# Altium integrated library Lattice ORCA Series 4.IntLib: 36 symbols (part 5 of 9)
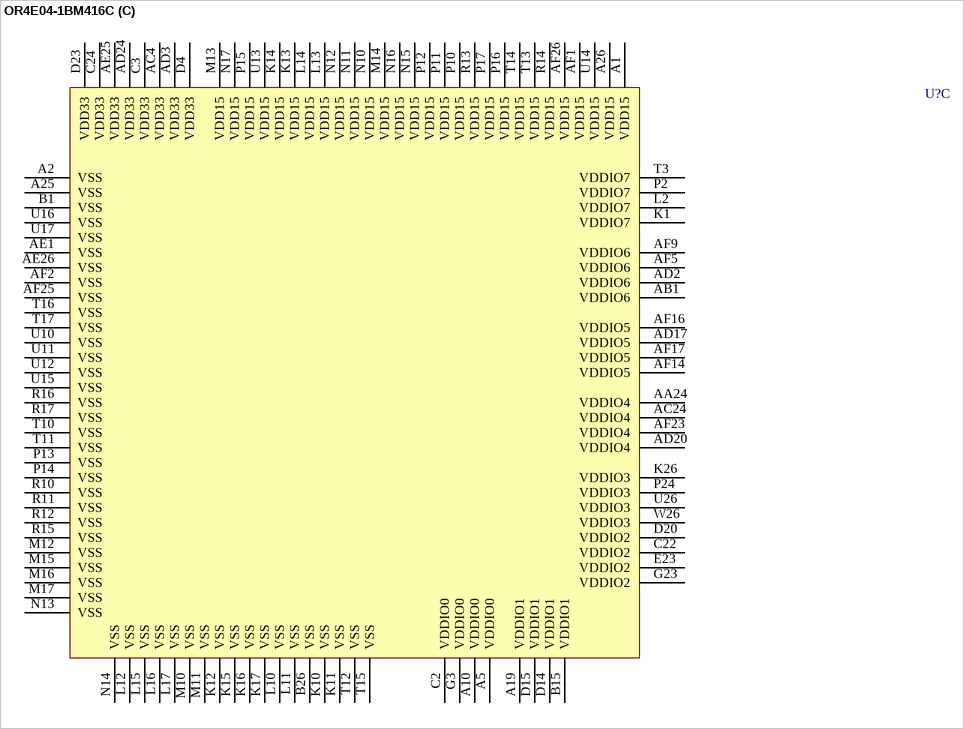
[diagram p122: symbol OR4E04-1BM416C]

## OR4E04-1BM416C
designator U?
ORCA Series 4 FPGA: 1.5 V, Commercial Grade, 466 I/Os.; Published: 21-May-2003; LatestRevisionDate: 13-Apr-2006; LatestRevisionNote: IPC-7351 Footprint Added.; DatasheetVersion: Aug-2003; PackageVersion: pkg_32, Aug-2005; PackageReference: fpBGA416; Publisher: Altium Limited; PackageDescription: 416-Ball Fine Pitch Ball Grid Array (fpBGA416); ComponentLink1Description: Manufacturer Link; ComponentLink1URL: http://www.latticesemi.com/products/fpga/orca/orca4/index.cfm; ComponentLink2Description: Datasheet; ComponentLink2URL: http://www.latticesemi.com/account/_download.cfm?AMID=3970; ComponentLink3Description: Lattice Login; ComponentLink3URL: http://www.latticesemi.com/account/login.cfm
footprint fpBGA416 (BGA, 416-Leads, Body 27x27mm, Pitch 1mm)
3D model OR4E04-fpBGA416 (416-Ball Fine Pitch Ball Grid Array (fpBGA416))
part A pins: AA1 PL32D/D8 (io), AA2 PL32C/VREF_6_01 (io), AA3 PL34C/VREF_6_02 (io), AA4 PL39D/PLL_CK7C/HPPLL (io), AB2 PL35B/D11 (io), AB3 PL36A/D13 (io), AB4 PL39C/PLL_CK7T/HPPLL (io), AC1 PL35A/D12 (io), AC2 PL36B/VREF_6_03 (io), AC5 PB2C/PLL_CK6T/PPLL (io), AC6 PB4C (io), AC7 PB6C/D15 (io), AC8 PB6D/D16 (io), AC9 PB11C/D23 (io), AC10 PB11D/D24 (io), AC11 PB15D/D30 (io), AC12 PB15C/D29 (io), AC13 PB20D (io), AC14 PB20C/VREF_5_02 (io), AC15 PB24C (io), AC16 PB24D (io), AC17 PB28D/VREF_5_06 (io), AC18 PB28C (io), AC19 PB33C (io), AC20 PB33D/VREF_4_02 (io), AC21 PB36C (io), AC22 PB37C/PLL_CK5T/PPLL (io), AC23 PB37D/PLL_CK5C/PPLL (io), AD1 PL37A/VREF_6_04 (io), AD4 PB2D/PLL_CK6C/PPLL (io), AD5 PB4D (io), AD6 PB6B (io), AD7 PB7C/D17 (io), AD8 PB8D/D19 (io), AD9 PB10D/D22 (io), AD10 PB13C/D26 (io), AD11 PB14D/D28 (io), AD12 PB17C (io), AD13 PB19C/PBCK0T (io), AD14 PB21D/VREF_5_03 (io), AD15 PB23C/PBCK1T (io), AD16 PB25C (io), AD18 PB30C (io), AD19 PB31D (io), AD21 PB35A (io), AD22 PB36D (io), AD23 PB37A (io), AE3 PB2A/DP2 (io), AE4 PB4A/VREF_6_05 (io), AE5 PB5D/D14 (io), AE6 PB7D/D18 (io), AE7 PB8C/VREF_6_07 (io), AE8 PB10C/VREF_6_08 (io), AE9 PB12D/D25 (io), AE10 PB13D/D27 (io), AE11 PB14C/VREF_6_10 (io), AE12 PB17D (io), AE13 PB19D/PBCK0C (io), AE14 PB21C (io), AE15 PB22D (io), AE16 PB23D/PBCK1C (io), AE17 PB25D/VREF_5_04 (io), AE18 PB26D/VREF_5_05 (io), AE19 PB30D (io), AE20 PB31C/VREF_4_01 (io), AE21 PB32D (io), AE22 PB34C (io), AE23 PB35C (io), AE24 PB37B/VREF_4_04 (io), AF3 PB4B/DP3 (io), AF4 PB5C/VREF_6_06 (io), AF6 PB9C/D20 (io), AF7 PB9D/D21 (io), AF8 PB12C/VREF_6_09 (io), AF10 PB16C/VREF_6_11 (io), AF11 PB16D/D31 (io), AF12 PB18C/VREF_5_01 (io), AF13 PB18D (io), AF15 PB22C (io), AF18 PB26C (io), AF19 PB27C (io), AF20 PB27D (io), AF21 PB32C (io), AF22 PB34A (io), AF24 PB35D/VREF_4_03 (io), D1 PL3C/VREF_0_07 (io), D2 PL2D/PLL_CK0C/HPPLL (io), E1 PL5D/HDC (io), E2 PL4D/D5 (io), E3 PL2C/PLL_CK0T/HPPLL (io), F1 PL7D/VREF_0_09 (io), F2 PL5C/~{LDC} (io), F3 PL4C/D6 (io), G1 PL9D (io), G2 PL7C/A17/PPC_A31 (io), G4 PL6D/TESTCFG (io), H1 PL9C (io), H2 PL8D/~{CS0} (io), H3 PL8C/CS1 (io), H4 PL6C/D7 (io), J1 PL12D/A15/PPC_A29 (io), J2 PL11C/A16/PPC_A30 (io), J3 PL11D/VREF_0_10 (io), J4 PL10D/~{INIT} (io), K2 PL12C/A14/PPC_A28 (io), K3 PL13D/VREF_7_01 (io), K4 PL10C/DOUT (io), L1 PL15D/A13/PPC_A27 (io), L3 PL13C/D4 (io), L4 PL14D/RDY/~{BUSY}/RCLK (io), M1 PL15C/A12/PPC_A26 (io), M2 PL16C (io), M3 PL16D (io), M4 PL14C/VREF_7_02 (io), N1 PL17D/A11/PPC_A25 (io), N2 PL17C/VREF_7_03 (io), N3 PL19D/~{RD/MPI_STRB} (io), N4 PL19C/VREF_7_04 (io), P1 PL21D/A10/PPC_A24 (io), P3 PL20C/PLCK0T (io), P4 PL20D/PLCK0C (io), R1 PL21C/A9/PPC_A23 (io), R2 PL22D/A8/PPC_A22 (io), R3 PL22C/VREF_7_05 (io), R4 PL25C/A7/PPC_A21 (io), T1 PL24D/PLCK1C (io), T2 PL24C/PLCK1T (io), T4 PL25D/VREF_7_06 (io), U1 PL26D/A6/PPC_A20 (io), U2 PL26C/A5/PPC_A19 (io), U3 PL27C/VREF_7_07 (io), U4 PL29C/A2/PPC_A16 (io), V1 PL26B (io), V2 PL27D/~{WR}/MPI_RW (io), V3 PL30D/A1/PPC_A15 (io), V4 PL29D/A3/PPC_A17 (io), W1 PL28D/A4/PPC_A18 (io), W2 PL30C/A0/PPC_A14 (io), W3 PL31C/DP1 (io), W4 PL33C/D10 (io), Y1 PL28C/VREF_7_08 (io), Y2 PL31D/DP0 (io), Y3 PL33D/D9 (io), Y4 PL34D (io)
part B pins: A3 PT3C/VREF_0_06 (io), A4 PT4D/TDI (io), A6 PT9C (io), A7 PT9D/VREF_0_03 (io), A8 PT11B/VREF_0_02 (io), A9 PT12C/M1 (io), A11 PT14C/VREF_1_06 (io), A12 PT16D/VREF_1_05 (io), A13 PT17C/PTCK0T (io), A14 PT19C/VREF_1_04 (io), A15 PT23C (io), A16 PT23D (io), A17 PT25D (io), A18 PT26D (io), A20 PT29C (io), A21 PT29D (io), A22 PT33D (io), A23 PT34D/VREF_2_06 (io), A24 PT36D/VREF_2_05 (io), AA23 PR37B (io), AA25 PR33C (io), AA26 PR33D/VREF_4_07 (io), AB23 PR37A/VREF_4_05 (io), AB24 PR36B (io), AB25 PR36C (io), AB26 PR35D (io), AC3 PTEMP, AC25 PR36A (io), AC26 PR35C/VREF_4_06 (io), AD25 PR38A/PLL_CK4T/PLL2 (io), AD26 PR38B/PLL_CK4C/PLL2 (io), AE2 LVDS_R (io), B2 CCLK (io), B3 PT3D (io), B4 ~{CFG_IRQ/MPI_IRQ} (out), B5 PT5C/D2 (io), B6 PT7C/A19/MPI_TSZ1 (io), B7 PT8C/TMS (io), B8 PT11A/~{MPI_TEA} (io), B9 PT12B/MPI_CLK (io), B10 PT12D/M0 (io), B11 PT14D (io), B12 PT16C (io), B13 PT17D/PTCK0C (io), B14 PT19D (io), B16 PT25C (io), B17 PT26C/VREF_1_02 (io), B18 PT27B (io), B19 PT28D (io), B20 PT31D (io), B21 PT33C/VREF_2_07 (io), B22 PT34C (io), B23 PT36C (io), B24 PLL_VF, B25 PR3D/PLL_CK3C/PLL1 (io), C1 ~{RESET} (in), C4 DONE (io), C5 PT4C/TCK (io), C6 PT5D/D1 (io), C7 PT7D/A20/~{MPI_BDIP} (io), C8 PT8D/D0 (io), C9 PT12A/A21/~{MPI_BURST} (io), C10 PT13A/VREF_0_01 (io), C11 PT13C/~{MPI_ACK} (io), C12 PT15D (io), C13 PT18C/PTCK1T (io), C14 PT21C (io), C15 PT21D (io), C16 PT24C/VREF_1_03 (io), C17 PT27A (io), C18 PT28C (io), C19 PT31C/VREF_2_08 (io), C20 PT32C (io), C21 PT35A (io), C23 PT37C/PLL_CK2T/PPLL (io), C25 PR4A (io), C26 PR3C/PLL_CK3T/PLL1 (io), D3 RD_DATA/TDO (out), D5 PT2D/PLL_CK1C/PPLL (io), D6 PT2C/PLL_CK1T/PPLL (io), D7 PT6D/A18/MPI_TSZ0 (io), D8 PT6C/D3 (io), D9 PT11C/M3 (io), D10 PT11D/M2 (io), D11 PT13D/~{MPI_RTRY} (io), D12 PT15C (io), D13 PT18D/PTCK1C (io), D16 PT24D (io), D17 PT27C (io), D18 PT27D/VREF_1_01 (io), D19 PT32D (io), D21 PT35B (io), D22 PT37D/PLL_CK2C/PPLL (io), D24 PR4B (io), D25 PR5B/VREF_2_03 (io), D26 PR5A (io), E4 ~{RD_CFG} (in), E24 PR4D (io), E25 PR6B (io), E26 PR9D (io), F4 ~{PRGM} (in), F23 PR4C (io), F24 PR6C (io), F25 PR6A/VREF_2_02 (io), F26 PR9C (io), G24 PR7B (io), G25 PR10C (io), G26 PR13D (io), H23 PR7A (io), H24 PR10D (io), H25 PR11D/VREF_2_01 (io), H26 PR13C (io), J23 PR12D (io), J24 PR11C (io), J25 PR14C/VREF_3_07 (io), J26 PR14B (io), K23 PR12C/VREF_3_08 (io), K24 PR14D (io), K25 PR14A (io), L23 PR15A (io), L24 PR15B (io), L25 PR16D (io), L26 PR16C (io), M23 PR17D/VREF_3_06 (io), M24 PR17C (io), M25 PR18D (io), M26 PR18C (io), N23 PR20C/PRCK0T (io), N24 PR19D (io), N25 PR19C/VREF_3_05 (io), N26 PR21D (io), P23 PR20D/PRCK0C (io), P25 PR22D/VREF_3_04 (io), P26 PR21C (io), R23 PR25A (io), R24 PR23C/PRCK1T (io), R25 PR23D/PRCK1C (io), R26 PR22C (io), T23 PR25B (io), T24 PR26B/VREF_3_02 (io), T25 PR25C (io), T26 PR25D/VREF_3_03 (io), U23 PR29D (io), U24 PR28D (io), U25 PR26A (io), V23 PR29C (io), V24 PR30D (io), V25 PR28C/VREF_3_01 (io), V26 PR27A (io), W23 PR34D (io), W24 PR32D (io), W25 PR30C (io), Y23 PR32C (io), Y24 PR34C (io), Y25 PR31C (io), Y26 PR31D/VREF_4_08 (io)
part C pins: A1 VDD15 (power), A2 VSS (power), A5 VDDIO0 (power), A10 VDDIO0 (power), A19 VDDIO1 (power), A25 VSS (power), A26 VDD15 (power), AA24 VDDIO4 (power), AB1 VDDIO6 (power), AC4 VDD33 (power), AC24 VDDIO4 (power), AD2 VDDIO6 (power), AD3 VDD33 (power), AD17 VDDIO5 (power), AD20 VDDIO4 (power), AD24 VDD33 (power), AE1 VSS (power), AE25 VDD33 (power), AE26 VSS (power), AF1 VDD15 (power), AF2 VSS (power), AF5 VDDIO6 (power), AF9 VDDIO6 (power), AF14 VDDIO5 (power), AF16 VDDIO5 (power), AF17 VDDIO5 (power), AF23 VDDIO4 (power), AF25 VSS (power), AF26 VDD15 (power), B1 VSS (power), B15 VDDIO1 (power), B26 VSS (power), C2 VDDIO0 (power), C3 VDD33 (power), C22 VDDIO2 (power), C24 VDD33 (power), D4 VDD33 (power), D14 VDDIO1 (power), D15 VDDIO1 (power), D20 VDDIO2 (power), D23 VDD33 (power), E23 VDDIO2 (power), G3 VDDIO0 (power), G23 VDDIO2 (power), K1 VDDIO7 (power), K10 VSS (power), K11 VSS (power), K12 VSS (power), K13 VDD15 (power), K14 VDD15 (power), K15 VSS (power), K16 VSS (power), K17 VSS (power), K26 VDDIO3 (power), L2 VDDIO7 (power), L10 VSS (power), L11 VSS (power), L12 VSS (power), L13 VDD15 (power), L14 VDD15 (power), L15 VSS (power), L16 VSS (power), L17 VSS (power), M10 VSS (power), M11 VSS (power), M12 VSS (power), M13 VDD15 (power), M14 VDD15 (power), M15 VSS (power), M16 VSS (power), M17 VSS (power), N10 VDD15 (power), N11 VDD15 (power), N12 VDD15 (power), N13 VSS (power), N14 VSS (power), N15 VDD15 (power), N16 VDD15 (power), N17 VDD15 (power), P2 VDDIO7 (power), P10 VDD15 (power), P11 VDD15 (power), P12 VDD15 (power), P13 VSS (power), P14 VSS (power), P15 VDD15 (power), P16 VDD15 (power), P17 VDD15 (power), P24 VDDIO3 (power), R10 VSS (power), R11 VSS (power), R12 VSS (power), R13 VDD15 (power), R14 VDD15 (power), R15 VSS (power), R16 VSS (power), R17 VSS (power), T3 VDDIO7 (power), T10 VSS (power), T11 VSS (power), T12 VSS (power), T13 VDD15 (power), T14 VDD15 (power), T15 VSS (power), T16 VSS (power), T17 VSS (power), U10 VSS (power), U11 VSS (power), U12 VSS (power), U13 VDD15 (power), U14 VDD15 (power), U15 VSS (power), U16 VSS (power), U17 VSS (power), U26 VDDIO3 (power), W26 VDDIO3 (power)

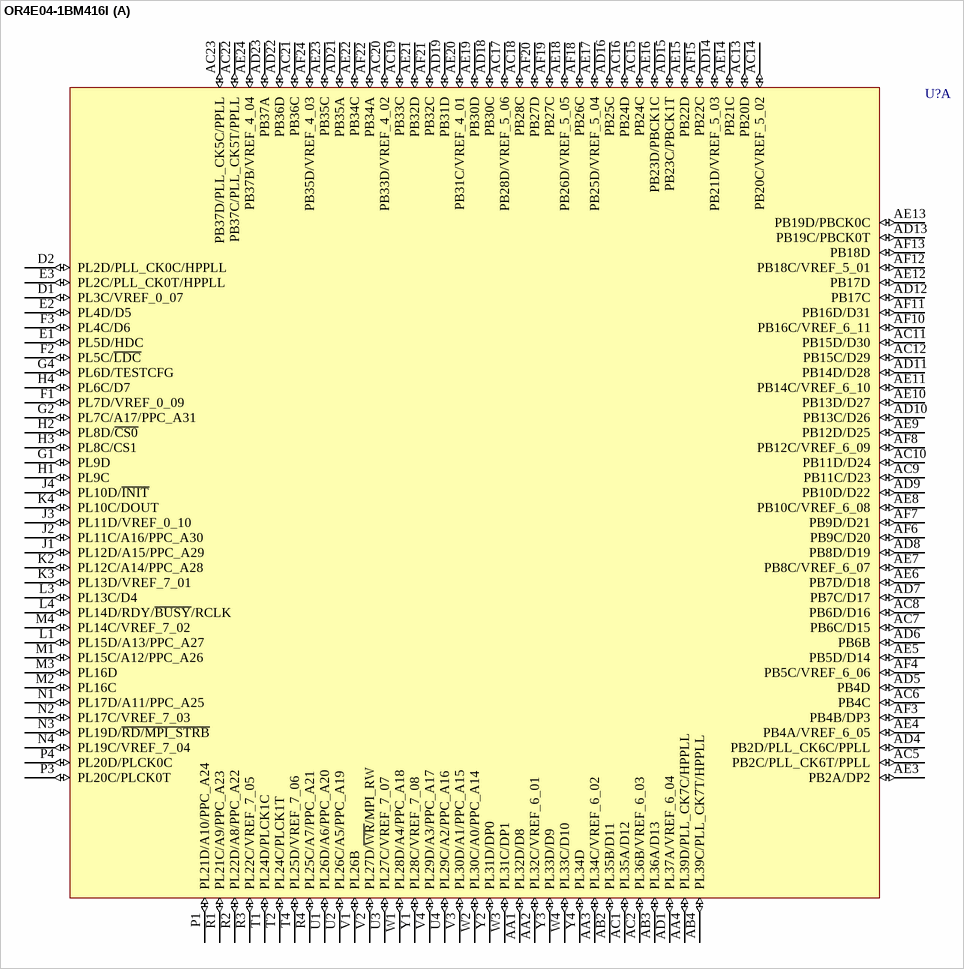
[diagram p54: symbol OR4E04-1BM416I]

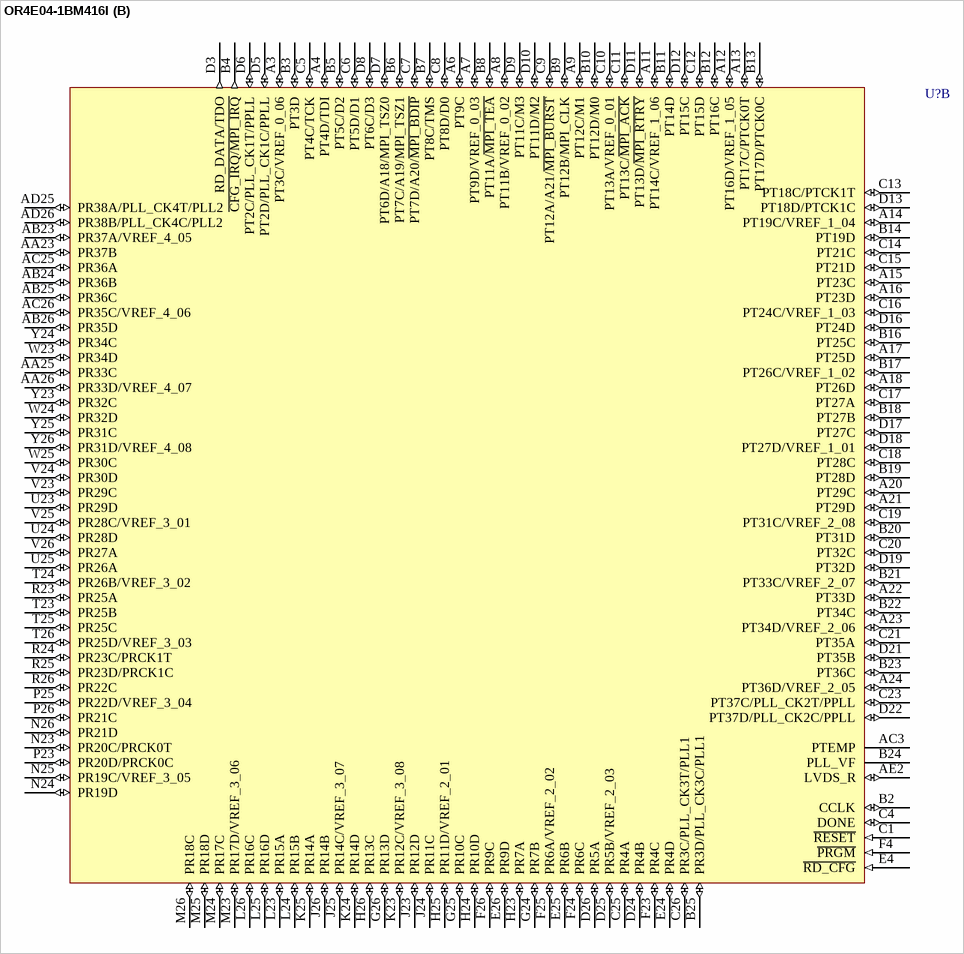
[diagram p55: symbol OR4E04-1BM416I]

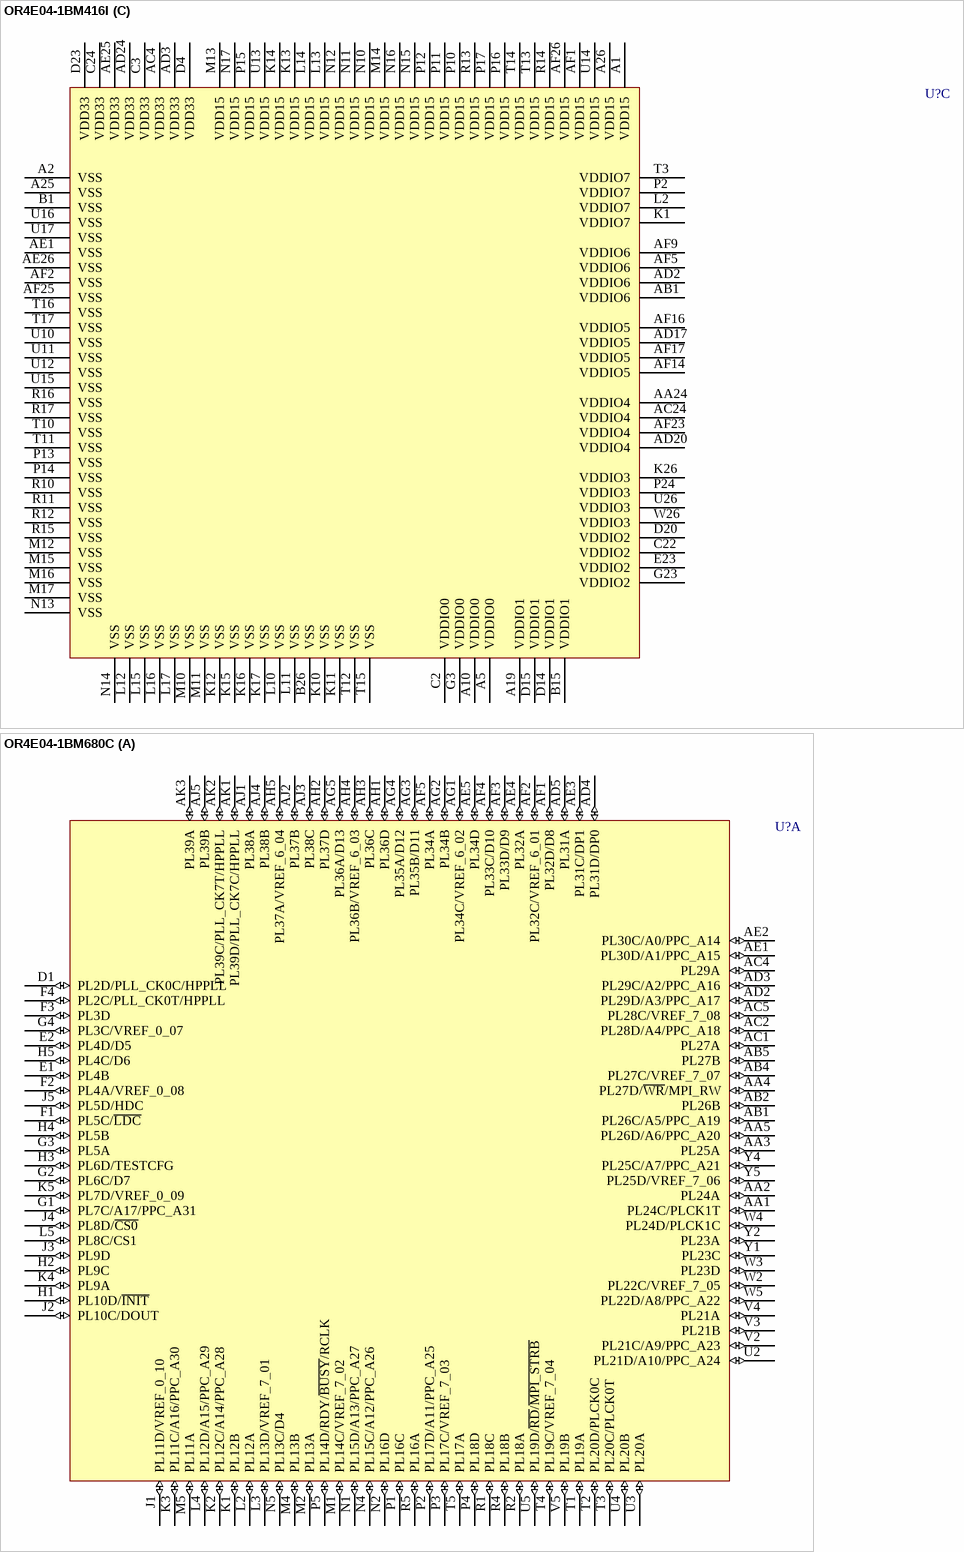
[diagram p56: symbols OR4E04-1BM416I to OR4E04-1BM680C]

## OR4E04-1BM416I
designator U?
ORCA Series 4 FPGA: 1.5 V, Industrial Grade, 466 I/Os.; Published: 21-May-2003; LatestRevisionDate: 13-Apr-2006; LatestRevisionNote: IPC-7351 Footprint Added.; DatasheetVersion: Aug-2003; PackageVersion: pkg_32, Aug-2005; PackageReference: fpBGA416; Publisher: Altium Limited; PackageDescription: 416-Ball Fine Pitch Ball Grid Array (fpBGA416); ComponentLink1Description: Manufacturer Link; ComponentLink1URL: http://www.latticesemi.com/products/fpga/orca/orca4/index.cfm; ComponentLink2Description: Datasheet; ComponentLink2URL: http://www.latticesemi.com/account/_download.cfm?AMID=3970; ComponentLink3Description: Lattice Login; ComponentLink3URL: http://www.latticesemi.com/account/login.cfm
footprint fpBGA416 (BGA, 416-Leads, Body 27x27mm, Pitch 1mm)
3D model OR4E04-fpBGA416 (416-Ball Fine Pitch Ball Grid Array (fpBGA416))
part A pins: AA1 PL32D/D8 (io), AA2 PL32C/VREF_6_01 (io), AA3 PL34C/VREF_6_02 (io), AA4 PL39D/PLL_CK7C/HPPLL (io), AB2 PL35B/D11 (io), AB3 PL36A/D13 (io), AB4 PL39C/PLL_CK7T/HPPLL (io), AC1 PL35A/D12 (io), AC2 PL36B/VREF_6_03 (io), AC5 PB2C/PLL_CK6T/PPLL (io), AC6 PB4C (io), AC7 PB6C/D15 (io), AC8 PB6D/D16 (io), AC9 PB11C/D23 (io), AC10 PB11D/D24 (io), AC11 PB15D/D30 (io), AC12 PB15C/D29 (io), AC13 PB20D (io), AC14 PB20C/VREF_5_02 (io), AC15 PB24C (io), AC16 PB24D (io), AC17 PB28D/VREF_5_06 (io), AC18 PB28C (io), AC19 PB33C (io), AC20 PB33D/VREF_4_02 (io), AC21 PB36C (io), AC22 PB37C/PLL_CK5T/PPLL (io), AC23 PB37D/PLL_CK5C/PPLL (io), AD1 PL37A/VREF_6_04 (io), AD4 PB2D/PLL_CK6C/PPLL (io), AD5 PB4D (io), AD6 PB6B (io), AD7 PB7C/D17 (io), AD8 PB8D/D19 (io), AD9 PB10D/D22 (io), AD10 PB13C/D26 (io), AD11 PB14D/D28 (io), AD12 PB17C (io), AD13 PB19C/PBCK0T (io), AD14 PB21D/VREF_5_03 (io), AD15 PB23C/PBCK1T (io), AD16 PB25C (io), AD18 PB30C (io), AD19 PB31D (io), AD21 PB35A (io), AD22 PB36D (io), AD23 PB37A (io), AE3 PB2A/DP2 (io), AE4 PB4A/VREF_6_05 (io), AE5 PB5D/D14 (io), AE6 PB7D/D18 (io), AE7 PB8C/VREF_6_07 (io), AE8 PB10C/VREF_6_08 (io), AE9 PB12D/D25 (io), AE10 PB13D/D27 (io), AE11 PB14C/VREF_6_10 (io), AE12 PB17D (io), AE13 PB19D/PBCK0C (io), AE14 PB21C (io), AE15 PB22D (io), AE16 PB23D/PBCK1C (io), AE17 PB25D/VREF_5_04 (io), AE18 PB26D/VREF_5_05 (io), AE19 PB30D (io), AE20 PB31C/VREF_4_01 (io), AE21 PB32D (io), AE22 PB34C (io), AE23 PB35C (io), AE24 PB37B/VREF_4_04 (io), AF3 PB4B/DP3 (io), AF4 PB5C/VREF_6_06 (io), AF6 PB9C/D20 (io), AF7 PB9D/D21 (io), AF8 PB12C/VREF_6_09 (io), AF10 PB16C/VREF_6_11 (io), AF11 PB16D/D31 (io), AF12 PB18C/VREF_5_01 (io), AF13 PB18D (io), AF15 PB22C (io), AF18 PB26C (io), AF19 PB27C (io), AF20 PB27D (io), AF21 PB32C (io), AF22 PB34A (io), AF24 PB35D/VREF_4_03 (io), D1 PL3C/VREF_0_07 (io), D2 PL2D/PLL_CK0C/HPPLL (io), E1 PL5D/HDC (io), E2 PL4D/D5 (io), E3 PL2C/PLL_CK0T/HPPLL (io), F1 PL7D/VREF_0_09 (io), F2 PL5C/~{LDC} (io), F3 PL4C/D6 (io), G1 PL9D (io), G2 PL7C/A17/PPC_A31 (io), G4 PL6D/TESTCFG (io), H1 PL9C (io), H2 PL8D/~{CS0} (io), H3 PL8C/CS1 (io), H4 PL6C/D7 (io), J1 PL12D/A15/PPC_A29 (io), J2 PL11C/A16/PPC_A30 (io), J3 PL11D/VREF_0_10 (io), J4 PL10D/~{INIT} (io), K2 PL12C/A14/PPC_A28 (io), K3 PL13D/VREF_7_01 (io), K4 PL10C/DOUT (io), L1 PL15D/A13/PPC_A27 (io), L3 PL13C/D4 (io), L4 PL14D/RDY/~{BUSY}/RCLK (io), M1 PL15C/A12/PPC_A26 (io), M2 PL16C (io), M3 PL16D (io), M4 PL14C/VREF_7_02 (io), N1 PL17D/A11/PPC_A25 (io), N2 PL17C/VREF_7_03 (io), N3 PL19D/~{RD/MPI_STRB} (io), N4 PL19C/VREF_7_04 (io), P1 PL21D/A10/PPC_A24 (io), P3 PL20C/PLCK0T (io), P4 PL20D/PLCK0C (io), R1 PL21C/A9/PPC_A23 (io), R2 PL22D/A8/PPC_A22 (io), R3 PL22C/VREF_7_05 (io), R4 PL25C/A7/PPC_A21 (io), T1 PL24D/PLCK1C (io), T2 PL24C/PLCK1T (io), T4 PL25D/VREF_7_06 (io), U1 PL26D/A6/PPC_A20 (io), U2 PL26C/A5/PPC_A19 (io), U3 PL27C/VREF_7_07 (io), U4 PL29C/A2/PPC_A16 (io), V1 PL26B (io), V2 PL27D/~{WR}/MPI_RW (io), V3 PL30D/A1/PPC_A15 (io), V4 PL29D/A3/PPC_A17 (io), W1 PL28D/A4/PPC_A18 (io), W2 PL30C/A0/PPC_A14 (io), W3 PL31C/DP1 (io), W4 PL33C/D10 (io), Y1 PL28C/VREF_7_08 (io), Y2 PL31D/DP0 (io), Y3 PL33D/D9 (io), Y4 PL34D (io)
part B pins: A3 PT3C/VREF_0_06 (io), A4 PT4D/TDI (io), A6 PT9C (io), A7 PT9D/VREF_0_03 (io), A8 PT11B/VREF_0_02 (io), A9 PT12C/M1 (io), A11 PT14C/VREF_1_06 (io), A12 PT16D/VREF_1_05 (io), A13 PT17C/PTCK0T (io), A14 PT19C/VREF_1_04 (io), A15 PT23C (io), A16 PT23D (io), A17 PT25D (io), A18 PT26D (io), A20 PT29C (io), A21 PT29D (io), A22 PT33D (io), A23 PT34D/VREF_2_06 (io), A24 PT36D/VREF_2_05 (io), AA23 PR37B (io), AA25 PR33C (io), AA26 PR33D/VREF_4_07 (io), AB23 PR37A/VREF_4_05 (io), AB24 PR36B (io), AB25 PR36C (io), AB26 PR35D (io), AC3 PTEMP, AC25 PR36A (io), AC26 PR35C/VREF_4_06 (io), AD25 PR38A/PLL_CK4T/PLL2 (io), AD26 PR38B/PLL_CK4C/PLL2 (io), AE2 LVDS_R (io), B2 CCLK (io), B3 PT3D (io), B4 ~{CFG_IRQ/MPI_IRQ} (out), B5 PT5C/D2 (io), B6 PT7C/A19/MPI_TSZ1 (io), B7 PT8C/TMS (io), B8 PT11A/~{MPI_TEA} (io), B9 PT12B/MPI_CLK (io), B10 PT12D/M0 (io), B11 PT14D (io), B12 PT16C (io), B13 PT17D/PTCK0C (io), B14 PT19D (io), B16 PT25C (io), B17 PT26C/VREF_1_02 (io), B18 PT27B (io), B19 PT28D (io), B20 PT31D (io), B21 PT33C/VREF_2_07 (io), B22 PT34C (io), B23 PT36C (io), B24 PLL_VF, B25 PR3D/PLL_CK3C/PLL1 (io), C1 ~{RESET} (in), C4 DONE (io), C5 PT4C/TCK (io), C6 PT5D/D1 (io), C7 PT7D/A20/~{MPI_BDIP} (io), C8 PT8D/D0 (io), C9 PT12A/A21/~{MPI_BURST} (io), C10 PT13A/VREF_0_01 (io), C11 PT13C/~{MPI_ACK} (io), C12 PT15D (io), C13 PT18C/PTCK1T (io), C14 PT21C (io), C15 PT21D (io), C16 PT24C/VREF_1_03 (io), C17 PT27A (io), C18 PT28C (io), C19 PT31C/VREF_2_08 (io), C20 PT32C (io), C21 PT35A (io), C23 PT37C/PLL_CK2T/PPLL (io), C25 PR4A (io), C26 PR3C/PLL_CK3T/PLL1 (io), D3 RD_DATA/TDO (out), D5 PT2D/PLL_CK1C/PPLL (io), D6 PT2C/PLL_CK1T/PPLL (io), D7 PT6D/A18/MPI_TSZ0 (io), D8 PT6C/D3 (io), D9 PT11C/M3 (io), D10 PT11D/M2 (io), D11 PT13D/~{MPI_RTRY} (io), D12 PT15C (io), D13 PT18D/PTCK1C (io), D16 PT24D (io), D17 PT27C (io), D18 PT27D/VREF_1_01 (io), D19 PT32D (io), D21 PT35B (io), D22 PT37D/PLL_CK2C/PPLL (io), D24 PR4B (io), D25 PR5B/VREF_2_03 (io), D26 PR5A (io), E4 ~{RD_CFG} (in), E24 PR4D (io), E25 PR6B (io), E26 PR9D (io), F4 ~{PRGM} (in), F23 PR4C (io), F24 PR6C (io), F25 PR6A/VREF_2_02 (io), F26 PR9C (io), G24 PR7B (io), G25 PR10C (io), G26 PR13D (io), H23 PR7A (io), H24 PR10D (io), H25 PR11D/VREF_2_01 (io), H26 PR13C (io), J23 PR12D (io), J24 PR11C (io), J25 PR14C/VREF_3_07 (io), J26 PR14B (io), K23 PR12C/VREF_3_08 (io), K24 PR14D (io), K25 PR14A (io), L23 PR15A (io), L24 PR15B (io), L25 PR16D (io), L26 PR16C (io), M23 PR17D/VREF_3_06 (io), M24 PR17C (io), M25 PR18D (io), M26 PR18C (io), N23 PR20C/PRCK0T (io), N24 PR19D (io), N25 PR19C/VREF_3_05 (io), N26 PR21D (io), P23 PR20D/PRCK0C (io), P25 PR22D/VREF_3_04 (io), P26 PR21C (io), R23 PR25A (io), R24 PR23C/PRCK1T (io), R25 PR23D/PRCK1C (io), R26 PR22C (io), T23 PR25B (io), T24 PR26B/VREF_3_02 (io), T25 PR25C (io), T26 PR25D/VREF_3_03 (io), U23 PR29D (io), U24 PR28D (io), U25 PR26A (io), V23 PR29C (io), V24 PR30D (io), V25 PR28C/VREF_3_01 (io), V26 PR27A (io), W23 PR34D (io), W24 PR32D (io), W25 PR30C (io), Y23 PR32C (io), Y24 PR34C (io), Y25 PR31C (io), Y26 PR31D/VREF_4_08 (io)
part C pins: A1 VDD15 (power), A2 VSS (power), A5 VDDIO0 (power), A10 VDDIO0 (power), A19 VDDIO1 (power), A25 VSS (power), A26 VDD15 (power), AA24 VDDIO4 (power), AB1 VDDIO6 (power), AC4 VDD33 (power), AC24 VDDIO4 (power), AD2 VDDIO6 (power), AD3 VDD33 (power), AD17 VDDIO5 (power), AD20 VDDIO4 (power), AD24 VDD33 (power), AE1 VSS (power), AE25 VDD33 (power), AE26 VSS (power), AF1 VDD15 (power), AF2 VSS (power), AF5 VDDIO6 (power), AF9 VDDIO6 (power), AF14 VDDIO5 (power), AF16 VDDIO5 (power), AF17 VDDIO5 (power), AF23 VDDIO4 (power), AF25 VSS (power), AF26 VDD15 (power), B1 VSS (power), B15 VDDIO1 (power), B26 VSS (power), C2 VDDIO0 (power), C3 VDD33 (power), C22 VDDIO2 (power), C24 VDD33 (power), D4 VDD33 (power), D14 VDDIO1 (power), D15 VDDIO1 (power), D20 VDDIO2 (power), D23 VDD33 (power), E23 VDDIO2 (power), G3 VDDIO0 (power), G23 VDDIO2 (power), K1 VDDIO7 (power), K10 VSS (power), K11 VSS (power), K12 VSS (power), K13 VDD15 (power), K14 VDD15 (power), K15 VSS (power), K16 VSS (power), K17 VSS (power), K26 VDDIO3 (power), L2 VDDIO7 (power), L10 VSS (power), L11 VSS (power), L12 VSS (power), L13 VDD15 (power), L14 VDD15 (power), L15 VSS (power), L16 VSS (power), L17 VSS (power), M10 VSS (power), M11 VSS (power), M12 VSS (power), M13 VDD15 (power), M14 VDD15 (power), M15 VSS (power), M16 VSS (power), M17 VSS (power), N10 VDD15 (power), N11 VDD15 (power), N12 VDD15 (power), N13 VSS (power), N14 VSS (power), N15 VDD15 (power), N16 VDD15 (power), N17 VDD15 (power), P2 VDDIO7 (power), P10 VDD15 (power), P11 VDD15 (power), P12 VDD15 (power), P13 VSS (power), P14 VSS (power), P15 VDD15 (power), P16 VDD15 (power), P17 VDD15 (power), P24 VDDIO3 (power), R10 VSS (power), R11 VSS (power), R12 VSS (power), R13 VDD15 (power), R14 VDD15 (power), R15 VSS (power), R16 VSS (power), R17 VSS (power), T3 VDDIO7 (power), T10 VSS (power), T11 VSS (power), T12 VSS (power), T13 VDD15 (power), T14 VDD15 (power), T15 VSS (power), T16 VSS (power), T17 VSS (power), U10 VSS (power), U11 VSS (power), U12 VSS (power), U13 VDD15 (power), U14 VDD15 (power), U15 VSS (power), U16 VSS (power), U17 VSS (power), U26 VDDIO3 (power), W26 VDDIO3 (power)

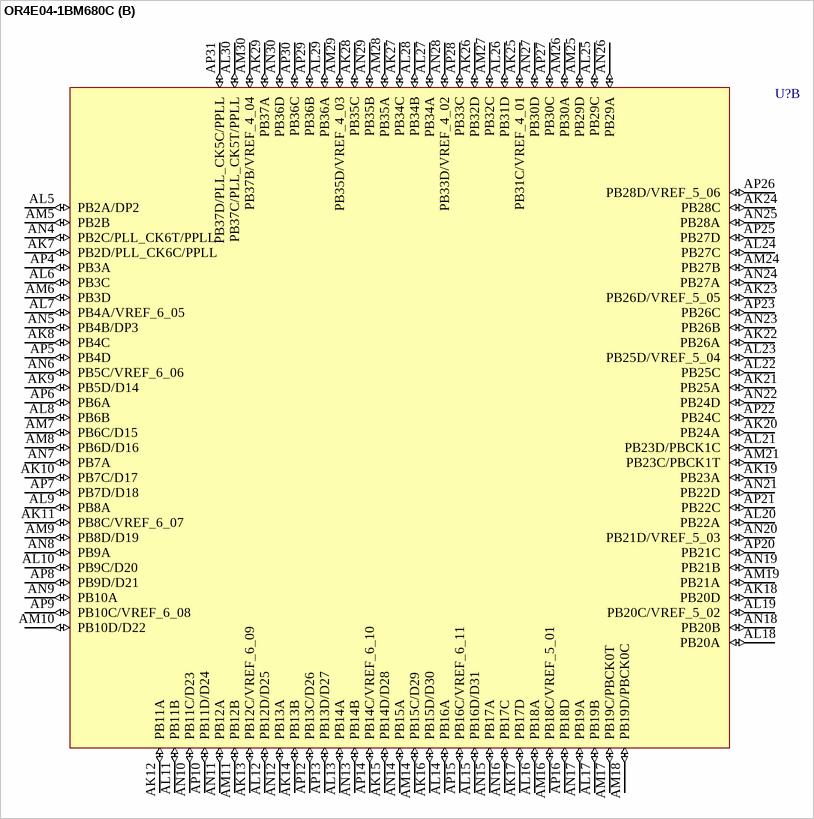
[diagram p57: symbol OR4E04-1BM680C]

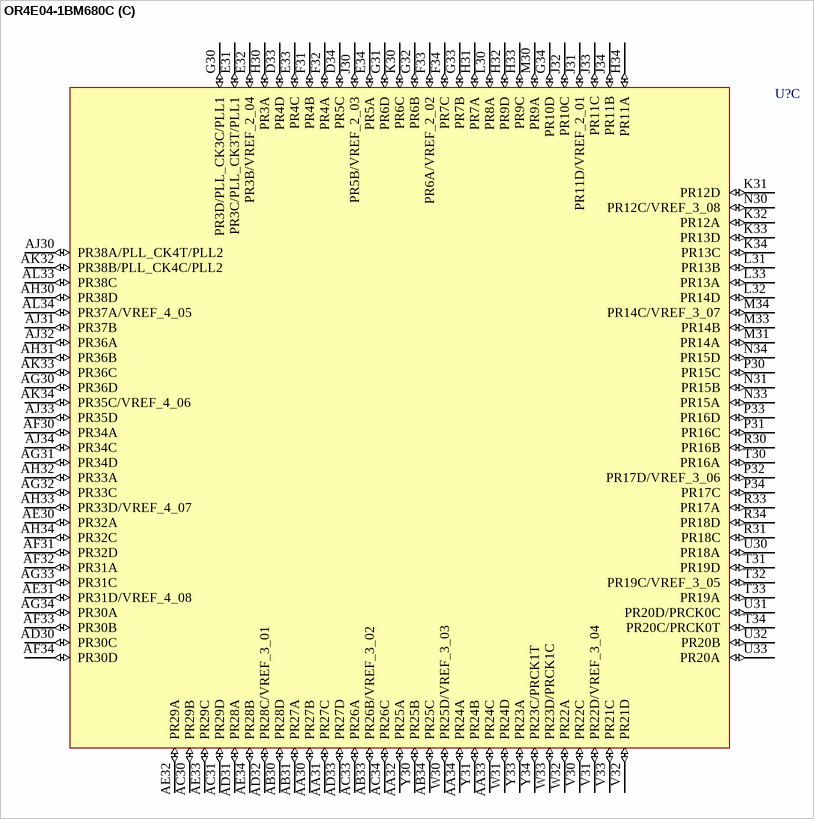
[diagram p58: symbol OR4E04-1BM680C]

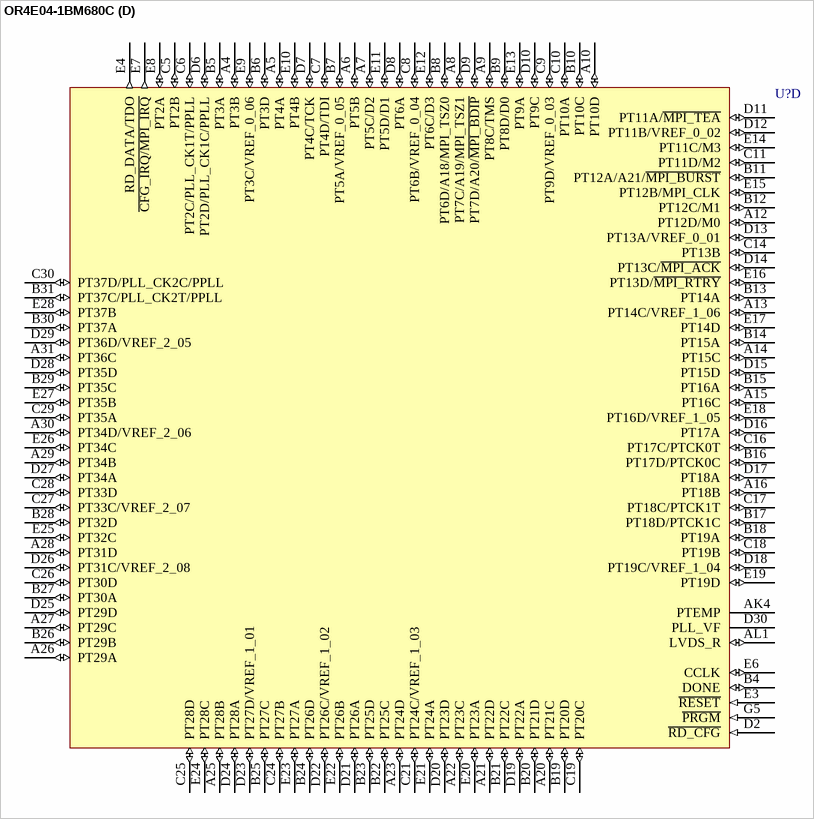
[diagram p59: symbol OR4E04-1BM680C]

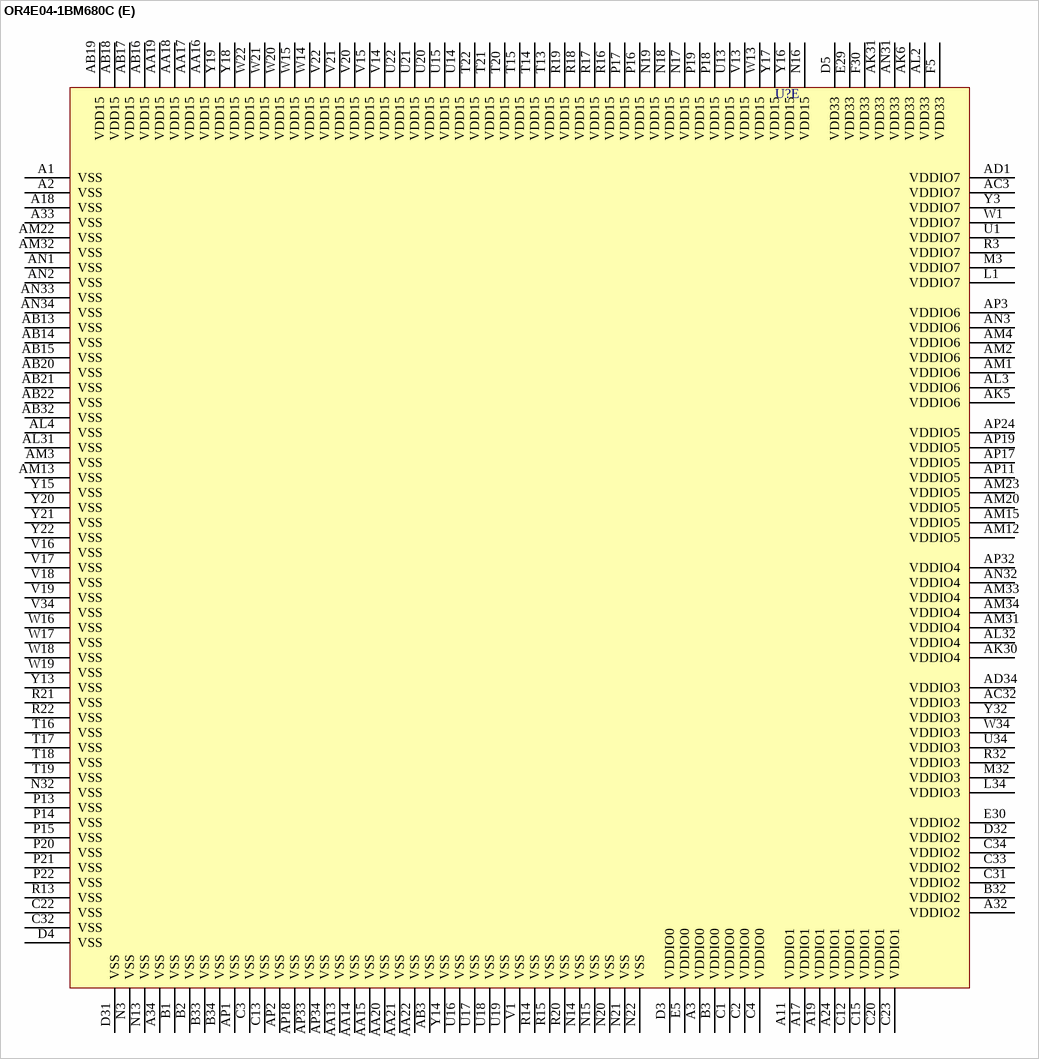
[diagram p60: symbol OR4E04-1BM680C]

## OR4E04-1BM680C
designator U?
ORCA Series 4 FPGA: 1.5 V, Commercial Grade, 466 I/Os.; Published: 21-May-2003; LatestRevisionDate: 13-Apr-2006; LatestRevisionNote: IPC-7351 Footprint Added.; DatasheetVersion: Aug-2003; PackageVersion: pkg_32, Aug-2005; PackageReference: fpBGA680; Publisher: Altium Limited; PackageDescription: 680-Ball Fine Pitch Ball Grid Array (fpBGA680); ComponentLink1Description: Manufacturer Link; ComponentLink1URL: http://www.latticesemi.com/products/fpga/orca/orca4/index.cfm; ComponentLink2Description: Datasheet; ComponentLink2URL: http://www.latticesemi.com/account/_download.cfm?AMID=3970; ComponentLink3Description: Lattice Login; ComponentLink3URL: http://www.latticesemi.com/account/login.cfm
footprint fpBGA680 (BGA, 680-Leads, Body 35x35mm, Pitch 1mm)
3D model OR4E04-fpBGA680 (680-Ball Fine Pitch Ball Grid Array (fpBGA680))
part A pins: AA1 PL24C/PLCK1T (io), AA2 PL24A (io), AA3 PL25A (io), AA4 PL27D/~{WR}/MPI_RW (io), AA5 PL26D/A6/PPC_A20 (io), AB1 PL26C/A5/PPC_A19 (io), AB2 PL26B (io), AB4 PL27C/VREF_7_07 (io), AB5 PL27B (io), AC1 PL27A (io), AC2 PL28D/A4/PPC_A18 (io), AC4 PL29A (io), AC5 PL28C/VREF_7_08 (io), AD2 PL29D/A3/PPC_A17 (io), AD3 PL29C/A2/PPC_A16 (io), AD4 PL31D/DP0 (io), AD5 PL31A (io), AE1 PL30D/A1/PPC_A15 (io), AE2 PL30C/A0/PPC_A14 (io), AE3 PL31C/DP1 (io), AE4 PL32A (io), AE5 PL34D (io), AF1 PL32D/D8 (io), AF2 PL32C/VREF_6_01 (io), AF3 PL33D/D9 (io), AF4 PL33C/D10 (io), AF5 PL34A (io), AG1 PL34C/VREF_6_02 (io), AG2 PL34B (io), AG3 PL35B/D11 (io), AG4 PL35A/D12 (io), AG5 PL36A/D13 (io), AH1 PL36D (io), AH2 PL37D (io), AH3 PL36C (io), AH4 PL36B/VREF_6_03 (io), AH5 PL37A/VREF_6_04 (io), AJ1 PL38A (io), AJ2 PL37B (io), AJ3 PL38C (io), AJ4 PL38B (io), AJ5 PL39B (io), AK1 PL39D/PLL_CK7C/HPPLL (io), AK2 PL39C/PLL_CK7T/HPPLL (io), AK3 PL39A (io), D1 PL2D/PLL_CK0C/HPPLL (io), E1 PL4B (io), E2 PL4D/D5 (io), F1 PL5C/~{LDC} (io), F2 PL4A/VREF_0_08 (io), F3 PL3D (io), F4 PL2C/PLL_CK0T/HPPLL (io), G1 PL7C/A17/PPC_A31 (io), G2 PL6C/D7 (io), G3 PL5A (io), G4 PL3C/VREF_0_07 (io), H1 PL10D/~{INIT} (io), H2 PL9C (io), H3 PL6D/TESTCFG (io), H4 PL5B (io), H5 PL4C/D6 (io), J1 PL11D/VREF_0_10 (io), J2 PL10C/DOUT (io), J3 PL9D (io), J4 PL8D/~{CS0} (io), J5 PL5D/HDC (io), K1 PL12B (io), K2 PL12C/A14/PPC_A28 (io), K3 PL11C/A16/PPC_A30 (io), K4 PL9A (io), K5 PL7D/VREF_0_09 (io), L2 PL12A (io), L3 PL13D/VREF_7_01 (io), L4 PL12D/A15/PPC_A29 (io), L5 PL8C/CS1 (io), M1 PL14C/VREF_7_02 (io), M2 PL13A (io), M4 PL13B (io), M5 PL11A (io), N1 PL15D/A13/PPC_A27 (io), N2 PL16D (io), N4 PL15C/A12/PPC_A26 (io), N5 PL13C/D4 (io), P1 PL16C (io), P2 PL17D/A11/PPC_A25 (io), P3 PL17C/VREF_7_03 (io), P4 PL18D (io), P5 PL14D/RDY/~{BUSY}/RCLK (io), R1 PL18C (io), R2 PL18A (io), R4 PL18B (io), R5 PL16A (io), T1 PL19A (io), T2 PL20D/PLCK0C (io), T3 PL20C/PLCK0T (io), T4 PL19C/VREF_7_04 (io), T5 PL17A (io), U2 PL21D/A10/PPC_A24 (io), U3 PL20A (io), U4 PL20B (io), U5 PL19D/~{RD}/~{MPI_STRB} (io), V2 PL21C/A9/PPC_A23 (io), V3 PL21B (io), V4 PL21A (io), V5 PL19B (io), W2 PL22C/VREF_7_05 (io), W3 PL23D (io), W4 PL24D/PLCK1C (io), W5 PL22D/A8/PPC_A22 (io), Y1 PL23C (io), Y2 PL23A (io), Y4 PL25C/A7/PPC_A21 (io), Y5 PL25D/VREF_7_06 (io)
part B pins: AK7 PB2D/PLL_CK6C/PPLL (io), AK8 PB4C (io), AK9 PB5D/D14 (io), AK10 PB7C/D17 (io), AK11 PB8C/VREF_6_07 (io), AK12 PB11A (io), AK13 PB12C/VREF_6_09 (io), AK14 PB13B (io), AK15 PB14D/D28 (io), AK16 PB15D/D30 (io), AK17 PB17D (io), AK18 PB20D (io), AK19 PB23A (io), AK20 PB24A (io), AK21 PB25A (io), AK22 PB26A (io), AK23 PB26D/VREF_5_05 (io), AK24 PB28C (io), AK25 PB31C/VREF_4_01 (io), AK26 PB32D (io), AK27 PB34C (io), AK28 PB35C (io), AK29 PB37A (io), AL5 PB2A/DP2 (io), AL6 PB3C (io), AL7 PB4A/VREF_6_05 (io), AL8 PB6B (io), AL9 PB8A (io), AL10 PB9C/D20 (io), AL11 PB11B (io), AL12 PB12D/D25 (io), AL13 PB14A (io), AL14 PB16A (io), AL15 PB16D/D31 (io), AL16 PB18A (io), AL17 PB19B (io), AL18 PB20A (io), AL19 PB20C/VREF_5_02 (io), AL20 PB22A (io), AL21 PB23D/PBCK1C (io), AL22 PB25C (io), AL23 PB25D/VREF_5_04 (io), AL24 PB27C (io), AL25 PB29C (io), AL26 PB31D (io), AL27 PB34A (io), AL28 PB34B (io), AL29 PB36A (io), AL30 PB37C/PLL_CK5T/PPLL (io), AM5 PB2B (io), AM6 PB3D (io), AM7 PB6C/D15 (io), AM8 PB6D/D16 (io), AM9 PB8D/D19 (io), AM10 PB10D/D22 (io), AM11 PB12B (io), AM14 PB15C/D29 (io), AM16 PB18C/VREF_5_01 (io), AM17 PB19C/PBCK0T (io), AM18 PB19D/PBCK0C (io), AM19 PB21A (io), AM21 PB23C/PBCK1T (io), AM24 PB27B (io), AM25 PB29D (io), AM26 PB30A (io), AM27 PB32C (io), AM28 PB35A (io), AM29 PB35D/VREF_4_03 (io), AM30 PB37B/VREF_4_04 (io), AN4 PB2C/PLL_CK6T/PPLL (io), AN5 PB4B/DP3 (io), AN6 PB5C/VREF_6_06 (io), AN7 PB7A (io), AN8 PB9A (io), AN9 PB10A (io), AN10 PB11C/D23 (io), AN11 PB12A (io), AN12 PB13A (io), AN13 PB14B (io), AN14 PB15A (io), AN15 PB17A (io), AN16 PB17C (io), AN17 PB19A (io), AN18 PB20B (io), AN19 PB21B (io), AN20 PB21D/VREF_5_03 (io), AN21 PB22D (io), AN22 PB24D (io), AN23 PB26B (io), AN24 PB27A (io), AN25 PB28A (io), AN26 PB29A (io), AN27 PB30D (io), AN28 PB33D/VREF_4_02 (io), AN29 PB35B (io), AN30 PB36D (io), AP4 PB3A (io), AP5 PB4D (io), AP6 PB6A (io), AP7 PB7D/D18 (io), AP8 PB9D/D21 (io), AP9 PB10C/VREF_6_08 (io), AP10 PB11D/D24 (io), AP12 PB13C/D26 (io), AP13 PB13D/D27 (io), AP14 PB14C/VREF_6_10 (io), AP15 PB16C/VREF_6_11 (io), AP16 PB18D (io), AP20 PB21C (io), AP21 PB22C (io), AP22 PB24C (io), AP23 PB26C (io), AP25 PB27D (io), AP26 PB28D/VREF_5_06 (io), AP27 PB30C (io), AP28 PB33C (io), AP29 PB36B (io), AP30 PB36C (io), AP31 PB37D/PLL_CK5C/PPLL (io)
part C pins: AA30 PR27B (io), AA31 PR27C (io), AA32 PR25A (io), AA33 PR24C (io), AA34 PR24A (io), AB30 PR28D (io), AB31 PR27A (io), AB33 PR26B/VREF_3_02 (io), AB34 PR25C (io), AC30 PR29B (io), AC31 PR29D (io), AC33 PR26A (io), AC34 PR26C (io), AD30 PR30C (io), AD31 PR28A (io), AD32 PR28C/VREF_3_01 (io), AD33 PR27D (io), AE30 PR32A (io), AE31 PR31D/VREF_4_08 (io), AE32 PR29A (io), AE33 PR29C (io), AE34 PR28B (io), AF30 PR34A (io), AF31 PR32D (io), AF32 PR31A (io), AF33 PR30B (io), AF34 PR30D (io), AG30 PR36D (io), AG31 PR34D (io), AG32 PR33C (io), AG33 PR31C (io), AG34 PR30A (io), AH30 PR38D (io), AH31 PR36B (io), AH32 PR33A (io), AH33 PR33D/VREF_4_07 (io), AH34 PR32C (io), AJ30 PR38A/PLL_CK4T/PLL2 (io), AJ31 PR37B (io), AJ32 PR36A (io), AJ33 PR35D (io), AJ34 PR34C (io), AK32 PR38B/PLL_CK4C/PLL2 (io), AK33 PR36C (io), AK34 PR35C/VREF_4_06 (io), AL33 PR38C (io), AL34 PR37A/VREF_4_05 (io), D33 PR4D (io), D34 PR5C (io), E31 PR3C/PLL_CK3T/PLL1 (io), E32 PR3B/VREF_2_04 (io), E33 PR4C (io), E34 PR5A (io), F31 PR4B (io), F32 PR4A (io), F33 PR6A/VREF_2_02 (io), F34 PR7C (io), G30 PR3D/PLL_CK3C/PLL1 (io), G31 PR6D (io), G32 PR6B (io), G33 PR7B (io), G34 PR10D (io), H30 PR3A (io), H31 PR7A (io), H32 PR9D (io), H33 PR9C (io), H34 PR11A (io), J30 PR5B/VREF_2_03 (io), J31 PR11D/VREF_2_01 (io), J32 PR10C (io), J33 PR11C (io), J34 PR11B (io), K30 PR6C (io), K31 PR12D (io), K32 PR12A (io), K33 PR13D (io), K34 PR13C (io), L30 PR8A (io), L31 PR13B (io), L32 PR14D (io), L33 PR13A (io), M30 PR9A (io), M31 PR14A (io), M33 PR14B (io), M34 PR14C/VREF_3_07 (io), N30 PR12C/VREF_3_08 (io), N31 PR15B (io), N33 PR15A (io), N34 PR15D (io), P30 PR15C (io), P31 PR16C (io), P32 PR17D/VREF_3_06 (io), P33 PR16D (io), P34 PR17C (io), R30 PR16B (io), R31 PR18C (io), R33 PR17A (io), R34 PR18D (io), T30 PR16A (io), T31 PR19D (io), T32 PR19C/VREF_3_05 (io), T33 PR19A (io), T34 PR20C/PRCK0T (io), U30 PR18A (io), U31 PR20D/PRCK0C (io), U32 PR20B (io), U33 PR20A (io), V30 PR22C (io), V31 PR22D/VREF_3_04 (io), V32 PR21D (io), V33 PR21C (io), W30 PR25D/VREF_3_03 (io), W31 PR24D (io), W32 PR22A (io), W33 PR23D/PRCK1C (io), Y30 PR25B (io), Y31 PR24B (io), Y33 PR23A (io), Y34 PR23C/PRCK1T (io)
part D pins: A4 PT3B (io), A5 PT4A (io), A6 PT5B (io), A7 PT5C/D2 (io), A8 PT7C/A19/MPI_TSZ1 (io), A9 PT8C/TMS (io), A10 PT10D (io), A12 PT12D/M0 (io), A13 PT14C/VREF_1_06 (io), A14 PT15C (io), A15 PT16C (io), A16 PT18B (io), A20 PT21C (io), A21 PT22D (io), A22 PT23C (io), A23 PT24D (io), A25 PT28B (io), A26 PT29A (io), A27 PT29C (io), A28 PT31D (io), A29 PT34B (io), A30 PT34D/VREF_2_06 (io), A31 PT36C (io), AK4 PTEMP, AL1 LVDS_R (io), B4 DONE (io), B5 PT3A (io), B6 PT3D (io), B7 PT5A/VREF_0_05 (io), B8 PT6D/A18/MPI_TSZ0 (io), B9 PT8D/D0 (io), B10 PT10C (io), B11 PT12A/A21/~{MPI_BURST} (io), B12 PT12C/M1 (io), B13 PT14A (io), B14 PT15A (io), B15 PT16A (io), B16 PT17D/PTCK0C (io), B17 PT18D/PTCK1C (io), B18 PT19A (io), B19 PT20D (io), B20 PT21D (io), B21 PT22C (io), B22 PT25C (io), B23 PT25D (io), B24 PT26D (io), B25 PT27C (io), B26 PT29B (io), B27 PT30A (io), B28 PT32D (io), B29 PT35C (io), B30 PT37A (io), B31 PT37C/PLL_CK2T/PPLL (io), C5 PT2B (io), C6 PT2C/PLL_CK1T/PPLL (io), C7 PT4D/TDI (io), C8 PT6B/VREF_0_04 (io), C9 PT9D/VREF_0_03 (io), C10 PT10A (io), C11 PT11D/M2 (io), C14 PT13B (io), C16 PT17C/PTCK0T (io), C17 PT18C/PTCK1T (io), C18 PT19B (io), C19 PT20C (io), C21 PT24C/VREF_1_03 (io), C24 PT27B (io), C25 PT28D (io), C26 PT30D (io), C27 PT33C/VREF_2_07 (io), C28 PT33D (io), C29 PT35A (io), C30 PT37D/PLL_CK2C/PPLL (io), D2 ~{RD_CFG} (in), D6 PT2D/PLL_CK1C/PPLL (io), D7 PT4C/TCK (io), D8 PT6A (io), D9 PT7D/A20/~{MPI_BDIP} (io), D10 PT9C (io), D11 PT11A/~{MPI_TEA} (io), D12 PT11B/VREF_0_02 (io), D13 PT13A/VREF_0_01 (io), D14 PT13C/~{MPI_ACK} (io), D15 PT15D (io), D16 PT17A (io), D17 PT18A (io), D18 PT19C/VREF_1_04 (io), D19 PT22A (io), D20 PT23D (io), D21 PT26A (io), D22 PT26C/VREF_1_02 (io), D23 PT27D/VREF_1_01 (io), D24 PT28A (io), D25 PT29D (io), D26 PT31C/VREF_2_08 (io), D27 PT34A (io), D28 PT35D (io), D29 PT36D/VREF_2_05 (io), D30 PLL_VF, E3 ~{RESET} (in), E4 RD_DATA/TDO (out), E6 CCLK (io), E7 ~{CFG_IRQ/MPI_IRQ} (out), E8 PT2A (io), E9 PT3C/VREF_0_06 (io), E10 PT4B (io), E11 PT5D/D1 (io), E12 PT6C/D3 (io), E13 PT9A (io), E14 PT11C/M3 (io), E15 PT12B/MPI_CLK (io), E16 PT13D/~{MPI_RTRY} (io), E17 PT14D (io), E18 PT16D/VREF_1_05 (io), E19 PT19D (io), E20 PT23A (io), E21 PT24A (io), E22 PT26B (io), E23 PT27A (io), E24 PT28C (io), E25 PT32C (io), E26 PT34C (io), E27 PT35B (io), E28 PT37B (io), G5 ~{PRGM} (in)
part E pins: A1 VSS (power), A2 VSS (power), A3 VDDIO0 (power), A11 VDDIO1 (power), A17 VDDIO1 (power), A18 VSS (power), A19 VDDIO1 (power), A24 VDDIO1 (power), A32 VDDIO2 (power), A33 VSS (power), A34 VSS (power), AA13 VSS (power), AA14 VSS (power), AA15 VSS (power), AA16 VDD15 (power), AA17 VDD15 (power), AA18 VDD15 (power), AA19 VDD15 (power), AA20 VSS (power), AA21 VSS (power), AA22 VSS (power), AB3 VSS (power), AB13 VSS (power), AB14 VSS (power), AB15 VSS (power), AB16 VDD15 (power), AB17 VDD15 (power), AB18 VDD15 (power), AB19 VDD15 (power), AB20 VSS (power), AB21 VSS (power), AB22 VSS (power), AB32 VSS (power), AC3 VDDIO7 (power), AC32 VDDIO3 (power), AD1 VDDIO7 (power), AD34 VDDIO3 (power), AK5 VDDIO6 (power), AK6 VDD33 (power), AK30 VDDIO4 (power), AK31 VDD33 (power), AL2 VDD33 (power), AL3 VDDIO6 (power), AL4 VSS (power), AL31 VSS (power), AL32 VDDIO4 (power), AM1 VDDIO6 (power), AM2 VDDIO6 (power), AM3 VSS (power), AM4 VDDIO6 (power), AM12 VDDIO5 (power), AM13 VSS (power), AM15 VDDIO5 (power), AM20 VDDIO5 (power), AM22 VSS (power), AM23 VDDIO5 (power), AM31 VDDIO4 (power), AM32 VSS (power), AM33 VDDIO4 (power), AM34 VDDIO4 (power), AN1 VSS (power), AN2 VSS (power), AN3 VDDIO6 (power), AN31 VDD33 (power), AN32 VDDIO4 (power), AN33 VSS (power), AN34 VSS (power), AP1 VSS (power), AP2 VSS (power), AP3 VDDIO6 (power), AP11 VDDIO5 (power), AP17 VDDIO5 (power), AP18 VSS (power), AP19 VDDIO5 (power), AP24 VDDIO5 (power), AP32 VDDIO4 (power), AP33 VSS (power), AP34 VSS (power), B1 VSS (power), B2 VSS (power), B3 VDDIO0 (power), B32 VDDIO2 (power), B33 VSS (power), B34 VSS (power), C1 VDDIO0 (power), C2 VDDIO0 (power), C3 VSS (power), C4 VDDIO0 (power), C12 VDDIO1 (power), C13 VSS (power), C15 VDDIO1 (power), C20 VDDIO1 (power), C22 VSS (power), C23 VDDIO1 (power), C31 VDDIO2 (power), C32 VSS (power), C33 VDDIO2 (power), C34 VDDIO2 (power), D3 VDDIO0 (power), D4 VSS (power), D5 VDD33 (power), D31 VSS (power), D32 VDDIO2 (power), E5 VDDIO0 (power), E29 VDD33 (power), E30 VDDIO2 (power), F5 VDD33 (power), F30 VDD33 (power), L1 VDDIO7 (power), L34 VDDIO3 (power), M3 VDDIO7 (power), M32 VDDIO3 (power), N3 VSS (power), N13 VSS (power), N14 VSS (power), N15 VSS (power), N16 VDD15 (power), N17 VDD15 (power), N18 VDD15 (power), N19 VDD15 (power), N20 VSS (power), N21 VSS (power), N22 VSS (power), N32 VSS (power), P13 VSS (power), P14 VSS (power), P15 VSS (power), P16 VDD15 (power), P17 VDD15 (power), P18 VDD15 (power), P19 VDD15 (power), P20 VSS (power), P21 VSS (power), P22 VSS (power), R3 VDDIO7 (power), R13 VSS (power), R14 VSS (power), R15 VSS (power), R16 VDD15 (power), R17 VDD15 (power), R18 VDD15 (power), R19 VDD15 (power), R20 VSS (power), R21 VSS (power), R22 VSS (power), R32 VDDIO3 (power), T13 VDD15 (power), T14 VDD15 (power), T15 VDD15 (power), T16 VSS (power), T17 VSS (power), T18 VSS (power), T19 VSS (power), T20 VDD15 (power), T21 VDD15 (power), T22 VDD15 (power), U1 VDDIO7 (power), U13 VDD15 (power), U14 VDD15 (power), U15 VDD15 (power), U16 VSS (power), U17 VSS (power), U18 VSS (power), U19 VSS (power), U20 VDD15 (power), U21 VDD15 (power), U22 VDD15 (power), U34 VDDIO3 (power), V1 VSS (power), V13 VDD15 (power), V14 VDD15 (power), V15 VDD15 (power), V16 VSS (power), V17 VSS (power), V18 VSS (power), V19 VSS (power), V20 VDD15 (power), V21 VDD15 (power), V22 VDD15 (power), V34 VSS (power), W1 VDDIO7 (power), W13 VDD15 (power), W14 VDD15 (power), W15 VDD15 (power), W16 VSS (power), W17 VSS (power), W18 VSS (power), W19 VSS (power), W20 VDD15 (power), W21 VDD15 (power), W22 VDD15 (power), W34 VDDIO3 (power), Y3 VDDIO7 (power), Y13 VSS (power), Y14 VSS (power), Y15 VSS (power), Y16 VDD15 (power), Y17 VDD15 (power), Y18 VDD15 (power), Y19 VDD15 (power), Y20 VSS (power), Y21 VSS (power), Y22 VSS (power), Y32 VDDIO3 (power)

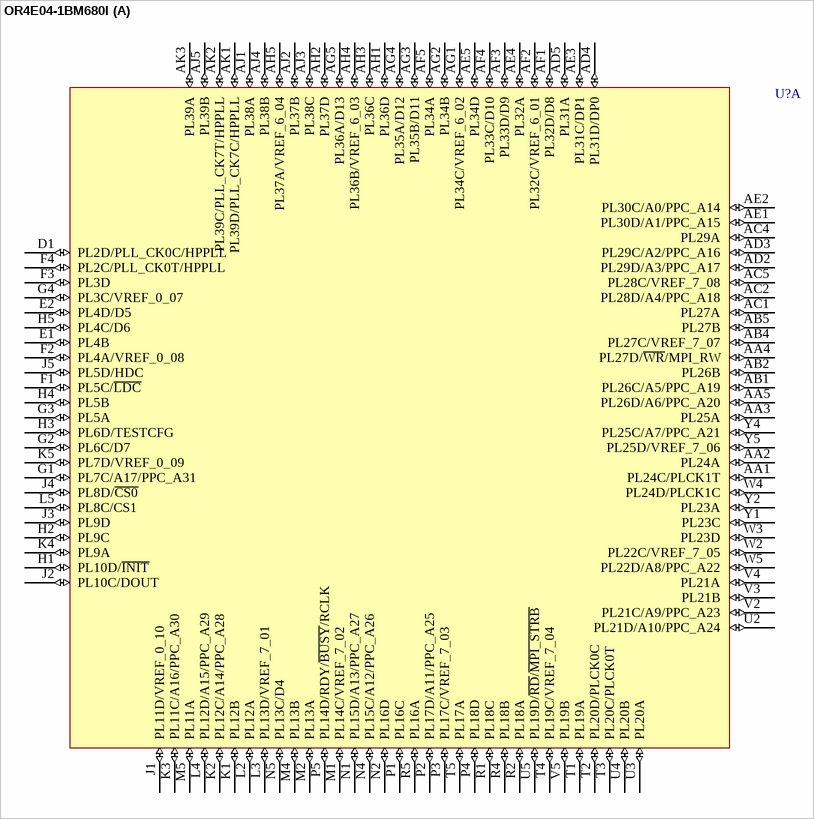
[diagram p61: symbol OR4E04-1BM680I]

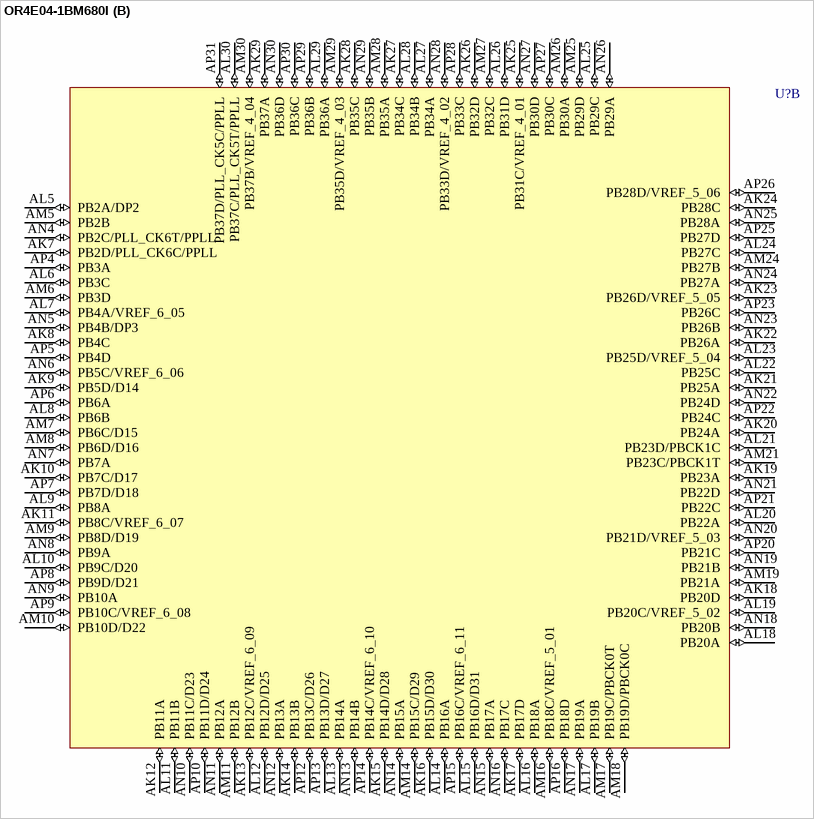
[diagram p62: symbol OR4E04-1BM680I]

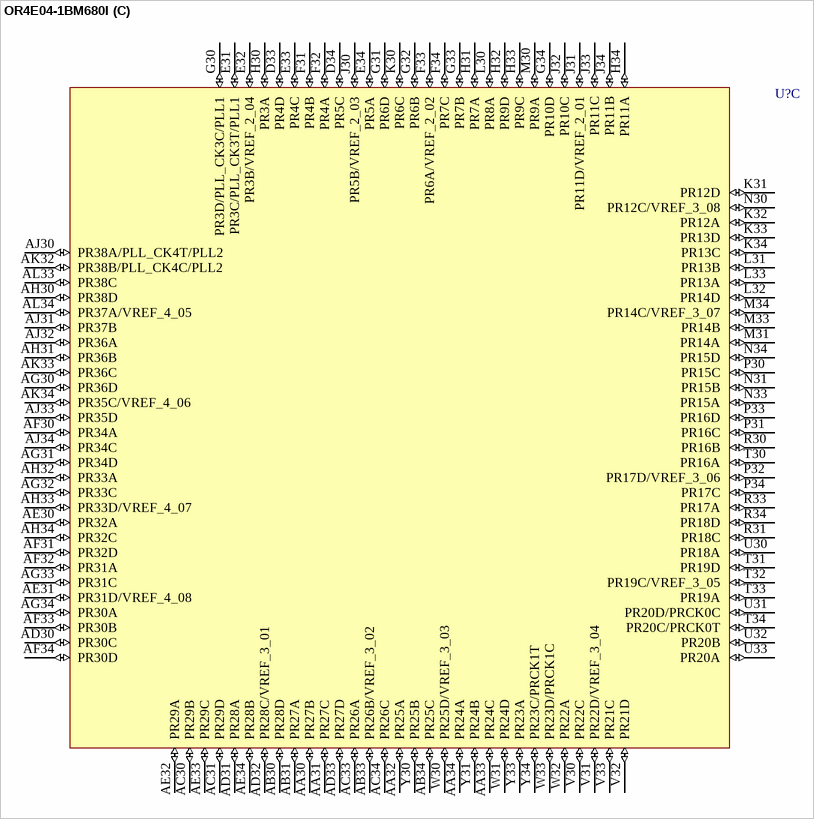
[diagram p63: symbol OR4E04-1BM680I]

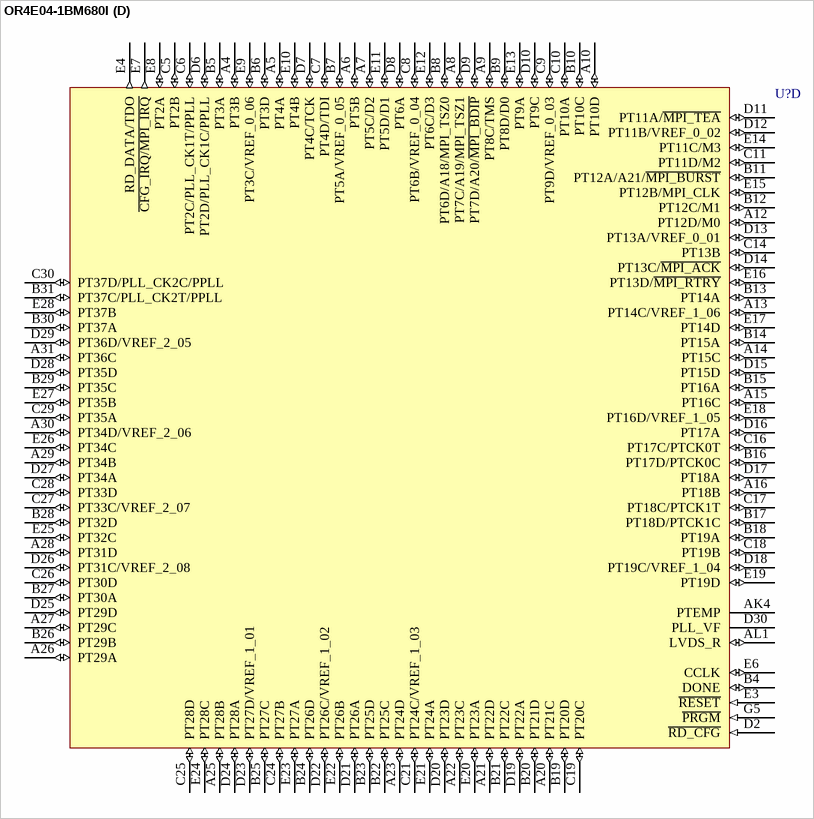
[diagram p64: symbol OR4E04-1BM680I]

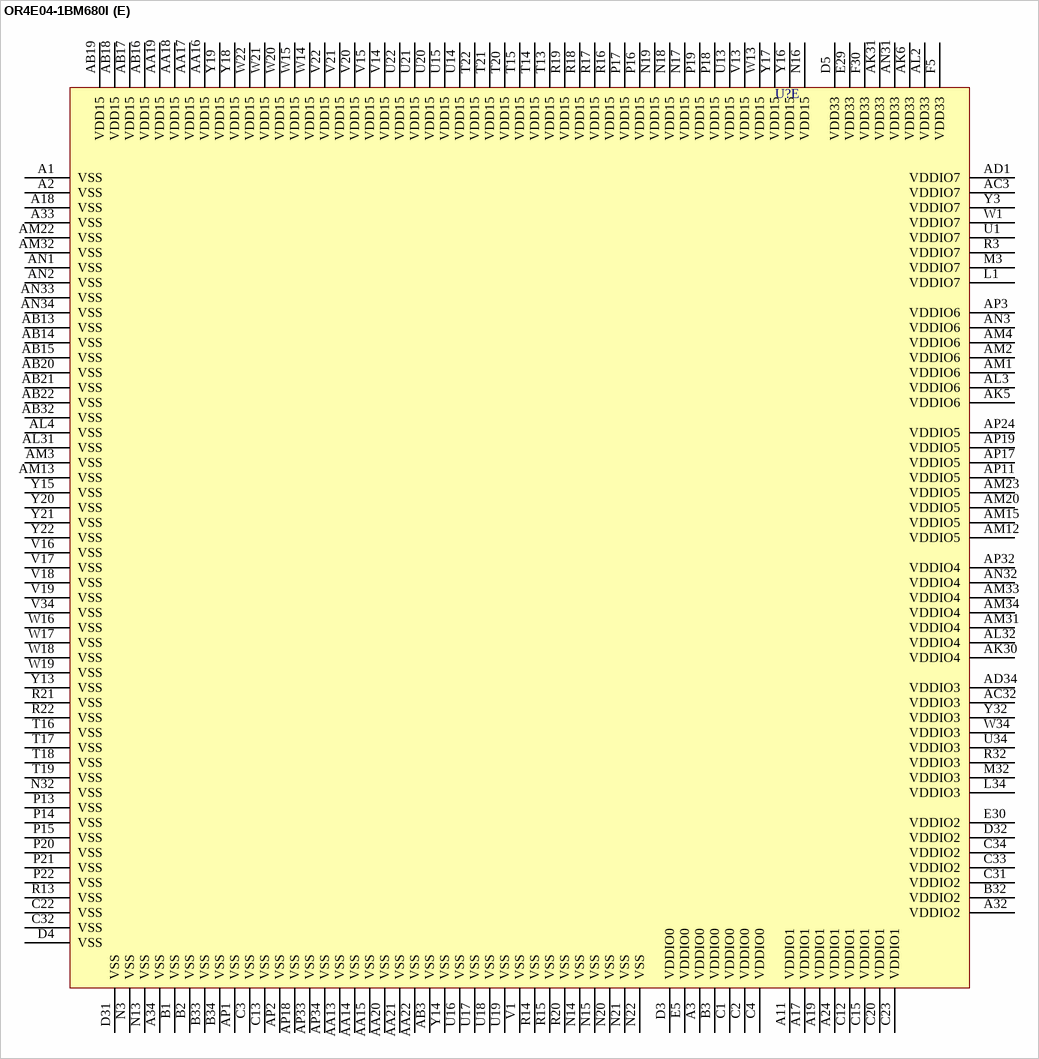
[diagram p65: symbol OR4E04-1BM680I]

## OR4E04-1BM680I
designator U?
ORCA Series 4 FPGA: 1.5 V, Industrial Grade, 466 I/Os.; Published: 21-May-2003; LatestRevisionDate: 13-Apr-2006; LatestRevisionNote: IPC-7351 Footprint Added.; DatasheetVersion: Aug-2003; PackageVersion: pkg_32, Aug-2005; PackageReference: fpBGA680; Publisher: Altium Limited; PackageDescription: 680-Ball Fine Pitch Ball Grid Array (fpBGA680); ComponentLink1Description: Manufacturer Link; ComponentLink1URL: http://www.latticesemi.com/products/fpga/orca/orca4/index.cfm; ComponentLink2Description: Datasheet; ComponentLink2URL: http://www.latticesemi.com/account/_download.cfm?AMID=3970; ComponentLink3Description: Lattice Login; ComponentLink3URL: http://www.latticesemi.com/account/login.cfm
footprint fpBGA680 (BGA, 680-Leads, Body 35x35mm, Pitch 1mm)
3D model OR4E04-fpBGA680 (680-Ball Fine Pitch Ball Grid Array (fpBGA680))
part A pins: AA1 PL24C/PLCK1T (io), AA2 PL24A (io), AA3 PL25A (io), AA4 PL27D/~{WR}/MPI_RW (io), AA5 PL26D/A6/PPC_A20 (io), AB1 PL26C/A5/PPC_A19 (io), AB2 PL26B (io), AB4 PL27C/VREF_7_07 (io), AB5 PL27B (io), AC1 PL27A (io), AC2 PL28D/A4/PPC_A18 (io), AC4 PL29A (io), AC5 PL28C/VREF_7_08 (io), AD2 PL29D/A3/PPC_A17 (io), AD3 PL29C/A2/PPC_A16 (io), AD4 PL31D/DP0 (io), AD5 PL31A (io), AE1 PL30D/A1/PPC_A15 (io), AE2 PL30C/A0/PPC_A14 (io), AE3 PL31C/DP1 (io), AE4 PL32A (io), AE5 PL34D (io), AF1 PL32D/D8 (io), AF2 PL32C/VREF_6_01 (io), AF3 PL33D/D9 (io), AF4 PL33C/D10 (io), AF5 PL34A (io), AG1 PL34C/VREF_6_02 (io), AG2 PL34B (io), AG3 PL35B/D11 (io), AG4 PL35A/D12 (io), AG5 PL36A/D13 (io), AH1 PL36D (io), AH2 PL37D (io), AH3 PL36C (io), AH4 PL36B/VREF_6_03 (io), AH5 PL37A/VREF_6_04 (io), AJ1 PL38A (io), AJ2 PL37B (io), AJ3 PL38C (io), AJ4 PL38B (io), AJ5 PL39B (io), AK1 PL39D/PLL_CK7C/HPPLL (io), AK2 PL39C/PLL_CK7T/HPPLL (io), AK3 PL39A (io), D1 PL2D/PLL_CK0C/HPPLL (io), E1 PL4B (io), E2 PL4D/D5 (io), F1 PL5C/~{LDC} (io), F2 PL4A/VREF_0_08 (io), F3 PL3D (io), F4 PL2C/PLL_CK0T/HPPLL (io), G1 PL7C/A17/PPC_A31 (io), G2 PL6C/D7 (io), G3 PL5A (io), G4 PL3C/VREF_0_07 (io), H1 PL10D/~{INIT} (io), H2 PL9C (io), H3 PL6D/TESTCFG (io), H4 PL5B (io), H5 PL4C/D6 (io), J1 PL11D/VREF_0_10 (io), J2 PL10C/DOUT (io), J3 PL9D (io), J4 PL8D/~{CS0} (io), J5 PL5D/HDC (io), K1 PL12B (io), K2 PL12C/A14/PPC_A28 (io), K3 PL11C/A16/PPC_A30 (io), K4 PL9A (io), K5 PL7D/VREF_0_09 (io), L2 PL12A (io), L3 PL13D/VREF_7_01 (io), L4 PL12D/A15/PPC_A29 (io), L5 PL8C/CS1 (io), M1 PL14C/VREF_7_02 (io), M2 PL13A (io), M4 PL13B (io), M5 PL11A (io), N1 PL15D/A13/PPC_A27 (io), N2 PL16D (io), N4 PL15C/A12/PPC_A26 (io), N5 PL13C/D4 (io), P1 PL16C (io), P2 PL17D/A11/PPC_A25 (io), P3 PL17C/VREF_7_03 (io), P4 PL18D (io), P5 PL14D/RDY/~{BUSY}/RCLK (io), R1 PL18C (io), R2 PL18A (io), R4 PL18B (io), R5 PL16A (io), T1 PL19A (io), T2 PL20D/PLCK0C (io), T3 PL20C/PLCK0T (io), T4 PL19C/VREF_7_04 (io), T5 PL17A (io), U2 PL21D/A10/PPC_A24 (io), U3 PL20A (io), U4 PL20B (io), U5 PL19D/~{RD}/~{MPI_STRB} (io), V2 PL21C/A9/PPC_A23 (io), V3 PL21B (io), V4 PL21A (io), V5 PL19B (io), W2 PL22C/VREF_7_05 (io), W3 PL23D (io), W4 PL24D/PLCK1C (io), W5 PL22D/A8/PPC_A22 (io), Y1 PL23C (io), Y2 PL23A (io), Y4 PL25C/A7/PPC_A21 (io), Y5 PL25D/VREF_7_06 (io)
part B pins: AK7 PB2D/PLL_CK6C/PPLL (io), AK8 PB4C (io), AK9 PB5D/D14 (io), AK10 PB7C/D17 (io), AK11 PB8C/VREF_6_07 (io), AK12 PB11A (io), AK13 PB12C/VREF_6_09 (io), AK14 PB13B (io), AK15 PB14D/D28 (io), AK16 PB15D/D30 (io), AK17 PB17D (io), AK18 PB20D (io), AK19 PB23A (io), AK20 PB24A (io), AK21 PB25A (io), AK22 PB26A (io), AK23 PB26D/VREF_5_05 (io), AK24 PB28C (io), AK25 PB31C/VREF_4_01 (io), AK26 PB32D (io), AK27 PB34C (io), AK28 PB35C (io), AK29 PB37A (io), AL5 PB2A/DP2 (io), AL6 PB3C (io), AL7 PB4A/VREF_6_05 (io), AL8 PB6B (io), AL9 PB8A (io), AL10 PB9C/D20 (io), AL11 PB11B (io), AL12 PB12D/D25 (io), AL13 PB14A (io), AL14 PB16A (io), AL15 PB16D/D31 (io), AL16 PB18A (io), AL17 PB19B (io), AL18 PB20A (io), AL19 PB20C/VREF_5_02 (io), AL20 PB22A (io), AL21 PB23D/PBCK1C (io), AL22 PB25C (io), AL23 PB25D/VREF_5_04 (io), AL24 PB27C (io), AL25 PB29C (io), AL26 PB31D (io), AL27 PB34A (io), AL28 PB34B (io), AL29 PB36A (io), AL30 PB37C/PLL_CK5T/PPLL (io), AM5 PB2B (io), AM6 PB3D (io), AM7 PB6C/D15 (io), AM8 PB6D/D16 (io), AM9 PB8D/D19 (io), AM10 PB10D/D22 (io), AM11 PB12B (io), AM14 PB15C/D29 (io), AM16 PB18C/VREF_5_01 (io), AM17 PB19C/PBCK0T (io), AM18 PB19D/PBCK0C (io), AM19 PB21A (io), AM21 PB23C/PBCK1T (io), AM24 PB27B (io), AM25 PB29D (io), AM26 PB30A (io), AM27 PB32C (io), AM28 PB35A (io), AM29 PB35D/VREF_4_03 (io), AM30 PB37B/VREF_4_04 (io), AN4 PB2C/PLL_CK6T/PPLL (io), AN5 PB4B/DP3 (io), AN6 PB5C/VREF_6_06 (io), AN7 PB7A (io), AN8 PB9A (io), AN9 PB10A (io), AN10 PB11C/D23 (io), AN11 PB12A (io), AN12 PB13A (io), AN13 PB14B (io), AN14 PB15A (io), AN15 PB17A (io), AN16 PB17C (io), AN17 PB19A (io), AN18 PB20B (io), AN19 PB21B (io), AN20 PB21D/VREF_5_03 (io), AN21 PB22D (io), AN22 PB24D (io), AN23 PB26B (io), AN24 PB27A (io), AN25 PB28A (io), AN26 PB29A (io), AN27 PB30D (io), AN28 PB33D/VREF_4_02 (io), AN29 PB35B (io), AN30 PB36D (io), AP4 PB3A (io), AP5 PB4D (io), AP6 PB6A (io), AP7 PB7D/D18 (io), AP8 PB9D/D21 (io), AP9 PB10C/VREF_6_08 (io), AP10 PB11D/D24 (io), AP12 PB13C/D26 (io), AP13 PB13D/D27 (io), AP14 PB14C/VREF_6_10 (io), AP15 PB16C/VREF_6_11 (io), AP16 PB18D (io), AP20 PB21C (io), AP21 PB22C (io), AP22 PB24C (io), AP23 PB26C (io), AP25 PB27D (io), AP26 PB28D/VREF_5_06 (io), AP27 PB30C (io), AP28 PB33C (io), AP29 PB36B (io), AP30 PB36C (io), AP31 PB37D/PLL_CK5C/PPLL (io)
part C pins: AA30 PR27B (io), AA31 PR27C (io), AA32 PR25A (io), AA33 PR24C (io), AA34 PR24A (io), AB30 PR28D (io), AB31 PR27A (io), AB33 PR26B/VREF_3_02 (io), AB34 PR25C (io), AC30 PR29B (io), AC31 PR29D (io), AC33 PR26A (io), AC34 PR26C (io), AD30 PR30C (io), AD31 PR28A (io), AD32 PR28C/VREF_3_01 (io), AD33 PR27D (io), AE30 PR32A (io), AE31 PR31D/VREF_4_08 (io), AE32 PR29A (io), AE33 PR29C (io), AE34 PR28B (io), AF30 PR34A (io), AF31 PR32D (io), AF32 PR31A (io), AF33 PR30B (io), AF34 PR30D (io), AG30 PR36D (io), AG31 PR34D (io), AG32 PR33C (io), AG33 PR31C (io), AG34 PR30A (io), AH30 PR38D (io), AH31 PR36B (io), AH32 PR33A (io), AH33 PR33D/VREF_4_07 (io), AH34 PR32C (io), AJ30 PR38A/PLL_CK4T/PLL2 (io), AJ31 PR37B (io), AJ32 PR36A (io), AJ33 PR35D (io), AJ34 PR34C (io), AK32 PR38B/PLL_CK4C/PLL2 (io), AK33 PR36C (io), AK34 PR35C/VREF_4_06 (io), AL33 PR38C (io), AL34 PR37A/VREF_4_05 (io), D33 PR4D (io), D34 PR5C (io), E31 PR3C/PLL_CK3T/PLL1 (io), E32 PR3B/VREF_2_04 (io), E33 PR4C (io), E34 PR5A (io), F31 PR4B (io), F32 PR4A (io), F33 PR6A/VREF_2_02 (io), F34 PR7C (io), G30 PR3D/PLL_CK3C/PLL1 (io), G31 PR6D (io), G32 PR6B (io), G33 PR7B (io), G34 PR10D (io), H30 PR3A (io), H31 PR7A (io), H32 PR9D (io), H33 PR9C (io), H34 PR11A (io), J30 PR5B/VREF_2_03 (io), J31 PR11D/VREF_2_01 (io), J32 PR10C (io), J33 PR11C (io), J34 PR11B (io), K30 PR6C (io), K31 PR12D (io), K32 PR12A (io), K33 PR13D (io), K34 PR13C (io), L30 PR8A (io), L31 PR13B (io), L32 PR14D (io), L33 PR13A (io), M30 PR9A (io), M31 PR14A (io), M33 PR14B (io), M34 PR14C/VREF_3_07 (io), N30 PR12C/VREF_3_08 (io), N31 PR15B (io), N33 PR15A (io), N34 PR15D (io), P30 PR15C (io), P31 PR16C (io), P32 PR17D/VREF_3_06 (io), P33 PR16D (io), P34 PR17C (io), R30 PR16B (io), R31 PR18C (io), R33 PR17A (io), R34 PR18D (io), T30 PR16A (io), T31 PR19D (io), T32 PR19C/VREF_3_05 (io), T33 PR19A (io), T34 PR20C/PRCK0T (io), U30 PR18A (io), U31 PR20D/PRCK0C (io), U32 PR20B (io), U33 PR20A (io), V30 PR22C (io), V31 PR22D/VREF_3_04 (io), V32 PR21D (io), V33 PR21C (io), W30 PR25D/VREF_3_03 (io), W31 PR24D (io), W32 PR22A (io), W33 PR23D/PRCK1C (io), Y30 PR25B (io), Y31 PR24B (io), Y33 PR23A (io), Y34 PR23C/PRCK1T (io)
part D pins: A4 PT3B (io), A5 PT4A (io), A6 PT5B (io), A7 PT5C/D2 (io), A8 PT7C/A19/MPI_TSZ1 (io), A9 PT8C/TMS (io), A10 PT10D (io), A12 PT12D/M0 (io), A13 PT14C/VREF_1_06 (io), A14 PT15C (io), A15 PT16C (io), A16 PT18B (io), A20 PT21C (io), A21 PT22D (io), A22 PT23C (io), A23 PT24D (io), A25 PT28B (io), A26 PT29A (io), A27 PT29C (io), A28 PT31D (io), A29 PT34B (io), A30 PT34D/VREF_2_06 (io), A31 PT36C (io), AK4 PTEMP, AL1 LVDS_R (io), B4 DONE (io), B5 PT3A (io), B6 PT3D (io), B7 PT5A/VREF_0_05 (io), B8 PT6D/A18/MPI_TSZ0 (io), B9 PT8D/D0 (io), B10 PT10C (io), B11 PT12A/A21/~{MPI_BURST} (io), B12 PT12C/M1 (io), B13 PT14A (io), B14 PT15A (io), B15 PT16A (io), B16 PT17D/PTCK0C (io), B17 PT18D/PTCK1C (io), B18 PT19A (io), B19 PT20D (io), B20 PT21D (io), B21 PT22C (io), B22 PT25C (io), B23 PT25D (io), B24 PT26D (io), B25 PT27C (io), B26 PT29B (io), B27 PT30A (io), B28 PT32D (io), B29 PT35C (io), B30 PT37A (io), B31 PT37C/PLL_CK2T/PPLL (io), C5 PT2B (io), C6 PT2C/PLL_CK1T/PPLL (io), C7 PT4D/TDI (io), C8 PT6B/VREF_0_04 (io), C9 PT9D/VREF_0_03 (io), C10 PT10A (io), C11 PT11D/M2 (io), C14 PT13B (io), C16 PT17C/PTCK0T (io), C17 PT18C/PTCK1T (io), C18 PT19B (io), C19 PT20C (io), C21 PT24C/VREF_1_03 (io), C24 PT27B (io), C25 PT28D (io), C26 PT30D (io), C27 PT33C/VREF_2_07 (io), C28 PT33D (io), C29 PT35A (io), C30 PT37D/PLL_CK2C/PPLL (io), D2 ~{RD_CFG} (in), D6 PT2D/PLL_CK1C/PPLL (io), D7 PT4C/TCK (io), D8 PT6A (io), D9 PT7D/A20/~{MPI_BDIP} (io), D10 PT9C (io), D11 PT11A/~{MPI_TEA} (io), D12 PT11B/VREF_0_02 (io), D13 PT13A/VREF_0_01 (io), D14 PT13C/~{MPI_ACK} (io), D15 PT15D (io), D16 PT17A (io), D17 PT18A (io), D18 PT19C/VREF_1_04 (io), D19 PT22A (io), D20 PT23D (io), D21 PT26A (io), D22 PT26C/VREF_1_02 (io), D23 PT27D/VREF_1_01 (io), D24 PT28A (io), D25 PT29D (io), D26 PT31C/VREF_2_08 (io), D27 PT34A (io), D28 PT35D (io), D29 PT36D/VREF_2_05 (io), D30 PLL_VF, E3 ~{RESET} (in), E4 RD_DATA/TDO (out), E6 CCLK (io), E7 ~{CFG_IRQ/MPI_IRQ} (out), E8 PT2A (io), E9 PT3C/VREF_0_06 (io), E10 PT4B (io), E11 PT5D/D1 (io), E12 PT6C/D3 (io), E13 PT9A (io), E14 PT11C/M3 (io), E15 PT12B/MPI_CLK (io), E16 PT13D/~{MPI_RTRY} (io), E17 PT14D (io), E18 PT16D/VREF_1_05 (io), E19 PT19D (io), E20 PT23A (io), E21 PT24A (io), E22 PT26B (io), E23 PT27A (io), E24 PT28C (io), E25 PT32C (io), E26 PT34C (io), E27 PT35B (io), E28 PT37B (io), G5 ~{PRGM} (in)
part E pins: A1 VSS (power), A2 VSS (power), A3 VDDIO0 (power), A11 VDDIO1 (power), A17 VDDIO1 (power), A18 VSS (power), A19 VDDIO1 (power), A24 VDDIO1 (power), A32 VDDIO2 (power), A33 VSS (power), A34 VSS (power), AA13 VSS (power), AA14 VSS (power), AA15 VSS (power), AA16 VDD15 (power), AA17 VDD15 (power), AA18 VDD15 (power), AA19 VDD15 (power), AA20 VSS (power), AA21 VSS (power), AA22 VSS (power), AB3 VSS (power), AB13 VSS (power), AB14 VSS (power), AB15 VSS (power), AB16 VDD15 (power), AB17 VDD15 (power), AB18 VDD15 (power), AB19 VDD15 (power), AB20 VSS (power), AB21 VSS (power), AB22 VSS (power), AB32 VSS (power), AC3 VDDIO7 (power), AC32 VDDIO3 (power), AD1 VDDIO7 (power), AD34 VDDIO3 (power), AK5 VDDIO6 (power), AK6 VDD33 (power), AK30 VDDIO4 (power), AK31 VDD33 (power), AL2 VDD33 (power), AL3 VDDIO6 (power), AL4 VSS (power), AL31 VSS (power), AL32 VDDIO4 (power), AM1 VDDIO6 (power), AM2 VDDIO6 (power), AM3 VSS (power), AM4 VDDIO6 (power), AM12 VDDIO5 (power), AM13 VSS (power), AM15 VDDIO5 (power), AM20 VDDIO5 (power), AM22 VSS (power), AM23 VDDIO5 (power), AM31 VDDIO4 (power), AM32 VSS (power), AM33 VDDIO4 (power), AM34 VDDIO4 (power), AN1 VSS (power), AN2 VSS (power), AN3 VDDIO6 (power), AN31 VDD33 (power), AN32 VDDIO4 (power), AN33 VSS (power), AN34 VSS (power), AP1 VSS (power), AP2 VSS (power), AP3 VDDIO6 (power), AP11 VDDIO5 (power), AP17 VDDIO5 (power), AP18 VSS (power), AP19 VDDIO5 (power), AP24 VDDIO5 (power), AP32 VDDIO4 (power), AP33 VSS (power), AP34 VSS (power), B1 VSS (power), B2 VSS (power), B3 VDDIO0 (power), B32 VDDIO2 (power), B33 VSS (power), B34 VSS (power), C1 VDDIO0 (power), C2 VDDIO0 (power), C3 VSS (power), C4 VDDIO0 (power), C12 VDDIO1 (power), C13 VSS (power), C15 VDDIO1 (power), C20 VDDIO1 (power), C22 VSS (power), C23 VDDIO1 (power), C31 VDDIO2 (power), C32 VSS (power), C33 VDDIO2 (power), C34 VDDIO2 (power), D3 VDDIO0 (power), D4 VSS (power), D5 VDD33 (power), D31 VSS (power), D32 VDDIO2 (power), E5 VDDIO0 (power), E29 VDD33 (power), E30 VDDIO2 (power), F5 VDD33 (power), F30 VDD33 (power), L1 VDDIO7 (power), L34 VDDIO3 (power), M3 VDDIO7 (power), M32 VDDIO3 (power), N3 VSS (power), N13 VSS (power), N14 VSS (power), N15 VSS (power), N16 VDD15 (power), N17 VDD15 (power), N18 VDD15 (power), N19 VDD15 (power), N20 VSS (power), N21 VSS (power), N22 VSS (power), N32 VSS (power), P13 VSS (power), P14 VSS (power), P15 VSS (power), P16 VDD15 (power), P17 VDD15 (power), P18 VDD15 (power), P19 VDD15 (power), P20 VSS (power), P21 VSS (power), P22 VSS (power), R3 VDDIO7 (power), R13 VSS (power), R14 VSS (power), R15 VSS (power), R16 VDD15 (power), R17 VDD15 (power), R18 VDD15 (power), R19 VDD15 (power), R20 VSS (power), R21 VSS (power), R22 VSS (power), R32 VDDIO3 (power), T13 VDD15 (power), T14 VDD15 (power), T15 VDD15 (power), T16 VSS (power), T17 VSS (power), T18 VSS (power), T19 VSS (power), T20 VDD15 (power), T21 VDD15 (power), T22 VDD15 (power), U1 VDDIO7 (power), U13 VDD15 (power), U14 VDD15 (power), U15 VDD15 (power), U16 VSS (power), U17 VSS (power), U18 VSS (power), U19 VSS (power), U20 VDD15 (power), U21 VDD15 (power), U22 VDD15 (power), U34 VDDIO3 (power), V1 VSS (power), V13 VDD15 (power), V14 VDD15 (power), V15 VDD15 (power), V16 VSS (power), V17 VSS (power), V18 VSS (power), V19 VSS (power), V20 VDD15 (power), V21 VDD15 (power), V22 VDD15 (power), V34 VSS (power), W1 VDDIO7 (power), W13 VDD15 (power), W14 VDD15 (power), W15 VDD15 (power), W16 VSS (power), W17 VSS (power), W18 VSS (power), W19 VSS (power), W20 VDD15 (power), W21 VDD15 (power), W22 VDD15 (power), W34 VDDIO3 (power), Y3 VDDIO7 (power), Y13 VSS (power), Y14 VSS (power), Y15 VSS (power), Y16 VDD15 (power), Y17 VDD15 (power), Y18 VDD15 (power), Y19 VDD15 (power), Y20 VSS (power), Y21 VSS (power), Y22 VSS (power), Y32 VDDIO3 (power)

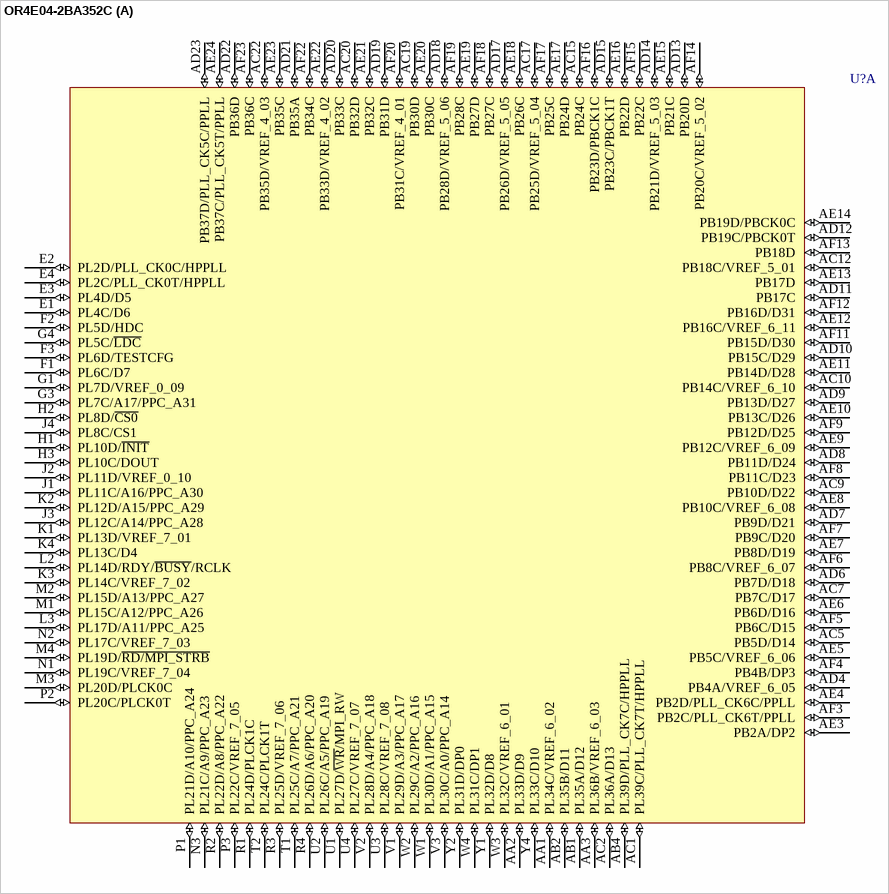
[diagram p66: symbol OR4E04-2BA352C]

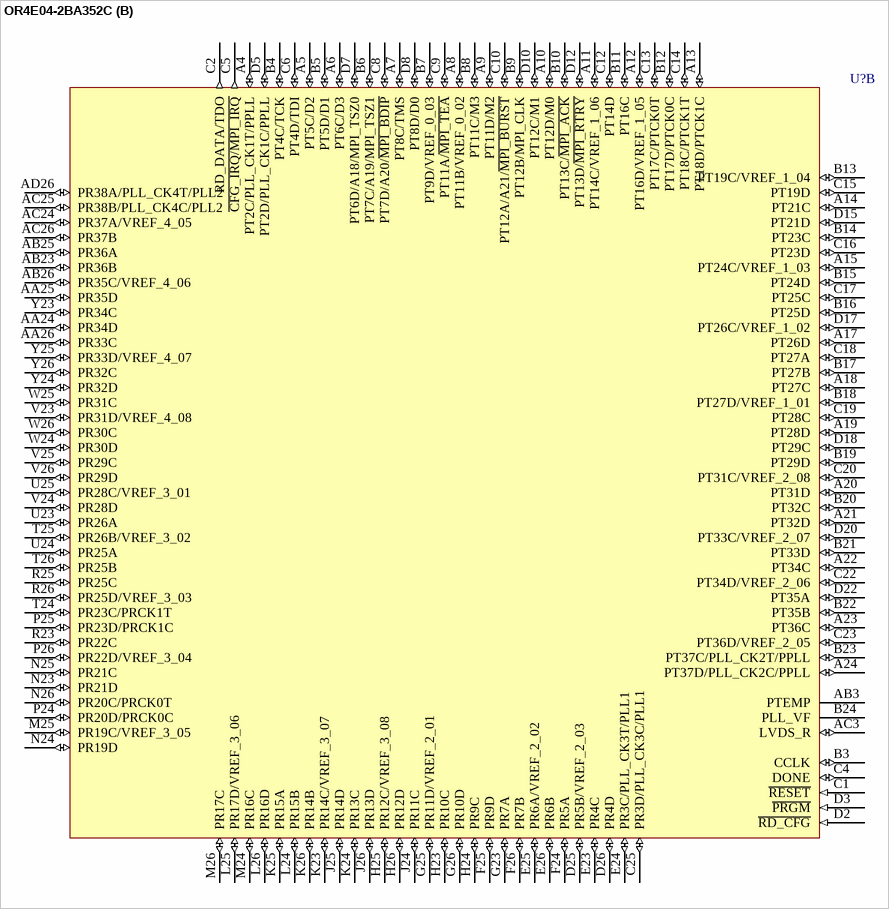
[diagram p67: symbol OR4E04-2BA352C]

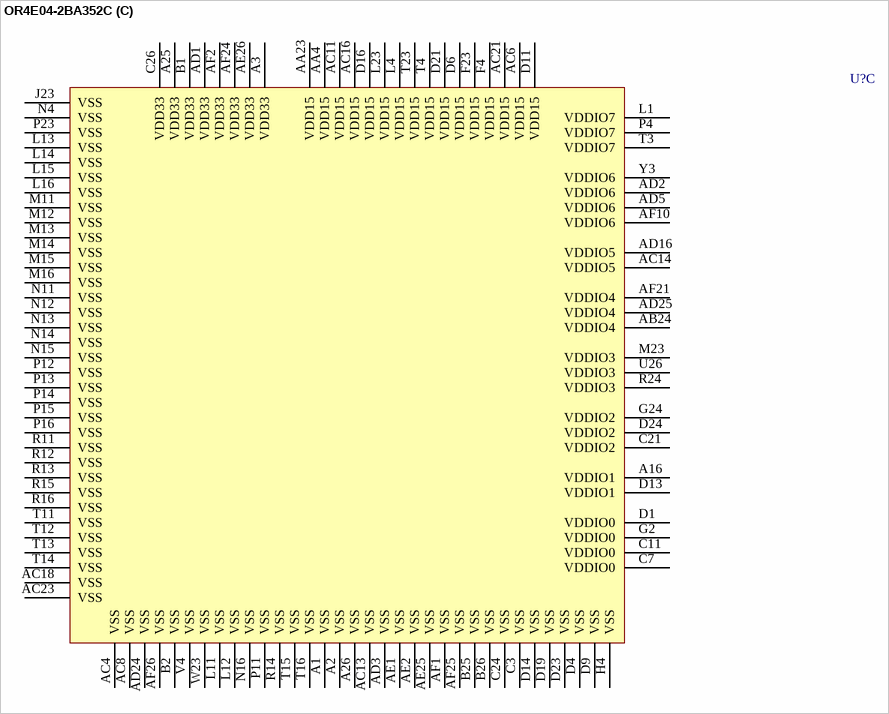
[diagram p68: symbol OR4E04-2BA352C]